# Altium footprint library PcbLib1.PcbLib: 17 footprints (part 2 of 3)
Each footprint in its own frame and in the unit in brackets; x right, y up, seen from the top. Pads: shape width x height; smd on the part's side, far side on the other; paste and mask are expansions set on the pad; w line width, h text height; cw(c..) or ccw(c..) is an arc to the next point about the centre after c.
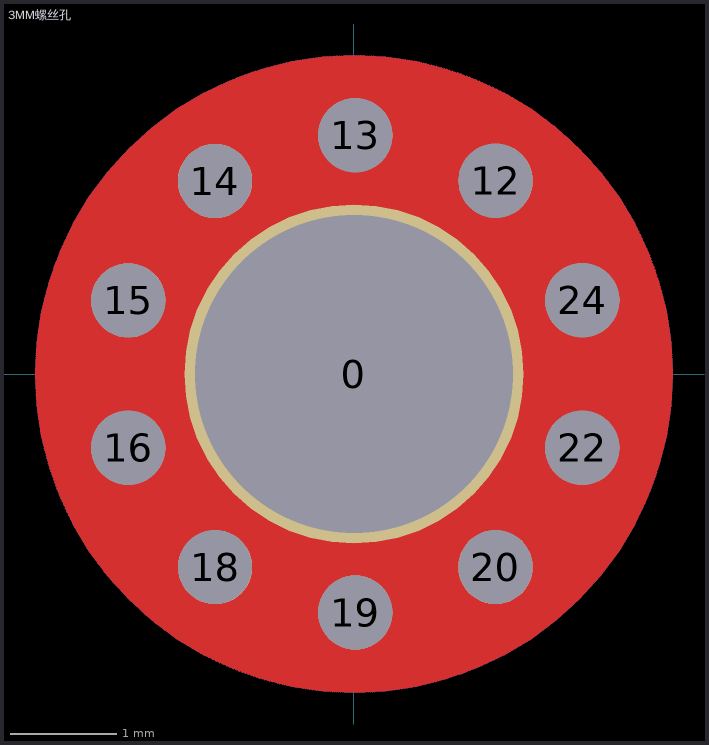
[diagram p1: the footprint, top view; thin cyan lines are the x and y axes]

## 3MM螺丝孔 [mm]
pads (11):
  round 3.2 hole 3: 0(0,0)
  round 0.7 hole 0.7: 12(1.335,1.821) 13(0.012,2.251) 14(-1.311,1.82) 15(-2.128,0.694) 16(-2.129,-0.694) 18(-1.31,-1.821) 19(0.012,-2.249) 20(1.334,-1.82) 22(2.152,-0.696) 24(2.152,0.695)
Top Layer:
  lines w0.013: -2.999,-0.065 -2.464,-0.6 ; -3,-0.047 -2.46,-0.587 ; -3,-0.029 -2.456,-0.573 ; -3,-0.012 -2.451,-0.561 ; -3,0.006 -2.445,-0.548 ; -3,0.024 -2.44,-0.537 ; -3,0.041 -2.433,-0.525 ; -2.999,0.059 -2.427,-0.514 ; -2.998,-0.102 -2.471,-0.629 ; -2.999,-0.083 -2.468,-0.614 ; -2.999,0.076 -2.42,-0.503 ; -2.999,0.093 -2.413,-0.493 ; -2.998,0.11 -2.405,-0.482 ; -2.997,-0.138 -2.476,-0.659 ; -2.998,-0.12 -2.474,-0.644 ; -2.997,0.127 -2.397,-0.473 ; -2.997,0.144 -2.389,-0.463 ; -2.996,-0.157 -2.477,-0.676 ; -2.996,0.161 -2.381,-0.454 ; -2.995,-0.176 -2.478,-0.693 ; -2.995,0.178 -2.372,-0.445 ; -2.994,-0.194 -2.477,-0.711 ; -2.994,0.194 -2.363,-0.436 ; -2.993,-0.213 -2.476,-0.73 ; -2.993,0.211 -2.354,-0.428 ; -2.992,0.228 -2.344,-0.42 ; -2.991,-0.232 -2.473,-0.75 ; -2.99,0.244 -2.334,-0.413 ; -2.99,-0.252 -2.469,-0.772 ; -2.988,-0.271 -2.463,-0.796 ; -2.989,0.26 -2.323,-0.405 ; -2.987,0.276 -2.313,-0.398 ; -2.986,-0.291 -2.454,-0.823 ; -2.986,0.293 -2.302,-0.392 ; -2.984,-0.31 -2.439,-0.855 ; -2.984,0.309 -2.29,-0.385 ; -2.983,0.325 -2.278,-0.379 ; -2.982,-0.33 -2.41,-0.902 ; -2.981,0.341 -2.266,-0.374 ; -2.98,-0.35 -1.636,-1.693 ; -2.979,0.356 -2.254,-0.369 ; -2.977,-0.37 -1.641,-1.706 ; -2.977,0.372 -2.241,-0.364 ; -2.975,0.388 -2.227,-0.36 ; -2.975,-0.39 -1.645,-1.72 ; -2.973,0.404 -2.214,-0.356 ; -2.972,-0.411 -1.649,-1.733 ; -2.971,0.419 -2.199,-0.353 ; -2.969,-0.431 -1.653,-1.748 ; -2.969,0.435 -2.184,-0.35 ; -2.966,-0.452 -1.655,-1.763 ; -2.966,0.45 -2.169,-0.348 ; -2.964,0.465 -2.153,-0.346 ; -2.963,-0.473 -1.658,-1.778 ; -2.962,0.481 -2.136,-0.345 ; -2.96,-0.494 -1.659,-1.794 ; -2.959,0.496 -2.118,-0.345 ; -2.957,0.511 -2.099,-0.347 ; -2.956,-0.515 -1.66,-1.811 ; -2.954,0.526 -2.079,-0.349 ; -2.952,-0.537 -1.66,-1.829 ; -2.951,0.541 -2.058,-0.352 ; -2.949,0.556 -2.035,-0.358 ; -2.948,-0.558 -1.659,-1.847 ; -2.946,0.571 -2.009,-0.366 ; -2.944,-0.58 -1.657,-1.867 ; -2.943,0.586 -1.979,-0.379 ; -2.939,-0.602 -1.654,-1.888 ; -2.94,0.6 -1.939,-0.4 ; -2.937,0.615 -0.274,-2.048 ; -2.935,-0.625 -1.648,-1.911 ; -2.934,0.629 -0.267,-2.038 ; -2.931,0.644 -0.259,-2.028 ; -2.93,-0.647 -1.64,-1.937 ; -2.928,0.659 -0.251,-2.018 ; -2.925,-0.67 -1.628,-1.967 ; -2.924,0.673 -0.242,-2.009 ; -2.921,0.687 -0.233,-2 ; -2.92,-0.693 -1.608,-2.005 ; -2.918,0.702 -0.224,-1.992 ; -2.914,0.716 -0.215,-1.983 ; -2.914,-0.716 -0.716,-2.914 ; -2.911,0.73 -0.205,-1.975 ; -2.908,-0.74 -0.74,-2.908 ; -2.907,0.744 -0.195,-1.968 ; -2.903,0.758 -0.185,-1.961 ; -2.902,-0.764 -0.764,-2.902 ; -2.9,0.772 -0.174,-1.954 ; -2.895,-0.788 -0.788,-2.895 ; -2.896,0.786 -1.165,-0.944 ; -2.892,0.8 -1.222,-0.87 ; -2.889,-0.812 -0.812,-2.889 ; -2.888,0.814 -1.259,-0.815 ; -2.884,0.828 -1.289,-0.768 ; -2.882,-0.837 -0.837,-2.882 ; -2.88,0.841 -1.313,-0.727 ; -2.876,0.855 -1.333,-0.688 ; -2.874,-0.862 -0.862,-2.874 ; -2.872,0.869 -1.351,-0.653 ; -2.868,0.882 -1.366,-0.62 ; -2.867,-0.887 -0.887,-2.866 ; -2.864,0.896 -1.38,-0.588 ; -2.86,0.909 -1.393,-0.558 ; -2.858,-0.913 -0.913,-2.858 ; -2.856,0.922 -1.404,-0.529 ; -2.851,0.936 -2.424,0.509 ; -2.85,-0.939 -0.939,-2.85 ; -2.847,0.949 -2.445,0.548 ; -2.842,0.962 -2.458,0.577 ; -2.841,-0.966 -0.966,-2.841 ; -2.838,0.975 -2.466,0.603 ; -2.833,0.989 -2.471,0.626 ; -2.832,-0.993 -0.993,-2.832 ; -2.829,1.002 -2.475,0.648 ; -2.824,1.015 -2.477,0.667 ; -2.822,-1.02 -1.02,-2.822 ; -2.819,1.028 -2.478,0.686 ; -2.815,1.041 -2.478,0.704 ; -2.812,-1.048 -1.048,-2.812 ; -2.81,1.053 -2.477,0.721 ; -2.805,1.066 -2.475,0.737 ; -2.801,-1.077 -1.077,-2.801 ; -2.8,1.079 -2.473,0.752 ; -2.795,1.092 -2.47,0.767 ; -2.79,-1.106 -1.106,-2.79 ; -2.79,1.104 -2.467,0.781 ; -2.785,1.117 -2.463,0.795 ; -2.78,1.13 -2.459,0.809 ; -2.778,-1.135 -1.135,-2.778 ; -2.775,1.142 -2.454,0.822 ; -2.77,1.155 -2.449,0.834 ; -2.765,-1.166 -1.166,-2.765 ; -2.764,1.167 -2.444,0.846 ; -2.759,1.18 -2.438,0.858 ; -2.754,1.192 -2.431,0.869 ; -2.752,-1.197 -1.197,-2.752 ; -2.748,1.204 -2.425,0.881 ; -2.743,1.217 -2.418,0.891 ; -2.738,-1.228 -1.228,-2.738 ; -2.738,1.229 -2.41,0.902 ; -2.732,1.241 -2.403,0.912 ; -2.727,1.253 -2.395,0.921 ; -2.723,-1.261 -1.261,-2.723 ; -2.721,1.265 -2.387,0.931 ; -2.715,1.277 -2.378,0.94 ; -2.71,1.289 -2.369,0.949 ; -2.707,-1.294 -1.294,-2.707 ; -2.704,1.301 -2.36,0.957 ; -2.698,1.313 -2.35,0.965 ; -2.692,1.325 -2.341,0.973 ; -2.69,-1.329 -1.329,-2.69 ; -2.686,1.337 -2.33,0.981 ; -2.681,1.348 -2.32,0.988 ; -2.675,1.36 -2.309,0.995 ; -2.672,-1.364 -1.364,-2.672 ; -2.669,1.372 -2.298,1.001 ; -2.663,1.384 -2.286,1.007 ; -2.657,1.395 -2.274,1.013 ; -2.653,-1.401 -1.401,-2.653 ; -2.65,1.407 -2.262,1.018 ; -2.644,1.418 -2.249,1.023 ; -2.638,1.43 -2.236,1.028 ; -2.633,-1.439 -1.44,-2.633 ; -2.632,1.441 -2.223,1.032 ; -2.625,1.453 -2.209,1.036 ; -2.619,1.464 -2.194,1.039 ; -2.613,1.475 -2.179,1.041 ; -2.61,-1.479 -1.479,-2.61 ; -2.606,1.486 -2.163,1.043 ; -2.6,1.498 -2.147,1.045 ; -2.593,1.509 -2.13,1.045 ; -2.587,1.52 -2.112,1.045 ; -2.586,-1.521 -1.521,-2.586 ; -2.58,1.531 -2.093,1.043 ; -2.574,1.542 -2.072,1.041 ; -2.567,1.553 -2.051,1.037 ; -2.56,1.564 -2.027,1.03 ; -2.559,-1.566 -1.566,-2.559 ; -2.554,1.575 -2,1.021 ; -2.547,1.586 -1.967,1.006 ; -2.54,1.597 -1.921,0.978 ; -2.533,1.608 -1.417,0.492 ; -2.53,-1.613 -1.613,-2.53 ; -2.526,1.618 -1.413,0.505 ; -2.519,1.629 -1.408,0.518 ; -2.512,1.64 -1.403,0.531 ; -2.505,1.651 -1.398,0.544 ; -2.498,1.661 -1.393,0.556 ; -2.497,-1.664 -1.664,-2.496 ; -2.491,1.672 -1.388,0.569 ; -2.484,1.682 -1.383,0.581 ; -2.477,1.693 -1.378,0.594 ; -2.47,1.703 -1.372,0.606 ; -2.463,1.714 -1.367,0.618 ; -2.458,-1.72 -1.72,-2.458 ; -2.455,1.724 -1.361,0.63 ; -2.448,1.735 -1.356,0.642 ; -2.441,1.745 -1.35,0.654 ; -2.433,1.755 -1.344,0.666 ; -2.426,1.765 -1.338,0.678 ; -2.418,1.776 -1.332,0.69 ; -2.413,-1.783 -1.783,-2.413 ; -2.411,1.786 -1.326,0.701 ; -2.403,1.796 -1.32,0.713 ; -2.396,1.806 -1.314,0.724 ; -2.388,1.816 -1.308,0.736 ; -2.38,1.826 -1.301,0.747 ; -2.373,1.836 -1.295,0.758 ; -2.365,1.846 -1.288,0.769 ; -2.357,1.856 -1.281,0.78 ; -2.355,-1.858 -1.859,-2.355 ; -2.349,1.866 -1.275,0.791 ; -2.341,1.876 -1.268,0.802 ; -2.334,-0.978 -1.631,-1.681 ; -2.334,1.885 -1.261,0.813 ; -2.326,1.895 -1.254,0.823 ; -2.318,1.905 -1.247,0.834 ; -2.314,0.399 -1.414,-0.501 ; -2.31,1.914 -1.24,0.845 ; -2.302,1.924 -1.233,0.855 ; -2.294,1.934 -1.225,0.865 ; -2.287,-1.007 -1.626,-1.669 ; -2.285,1.943 -1.218,0.876 ; -2.277,1.953 -1.21,0.886 ; -2.275,0.378 -1.423,-0.474 ; -2.271,-1.96 -1.96,-2.271 ; -2.269,1.962 -1.203,0.896 ; -2.261,1.972 -1.195,0.906 ; -2.255,-1.021 -1.62,-1.657 ; -2.253,1.981 -1.188,0.916 ; -2.245,0.365 -1.432,-0.448 ; -2.244,1.991 -1.18,0.926 ; -2.236,2 -1.172,0.936 ; -2.228,-1.031 -1.614,-1.645 ; -2.228,2.009 -1.164,0.946 ; -2.22,0.357 -1.44,-0.423 ; -2.219,2.019 -1.156,0.956 ; -2.211,2.028 -1.148,0.965 ; -2.204,-1.037 -1.607,-1.634 ; -2.202,2.037 -1.14,0.975 ; -2.197,0.352 -1.447,-0.398 ; -2.194,2.046 -1.132,0.984 ; -2.185,2.055 -1.124,0.994 ; -2.183,-1.041 -1.6,-1.624 ; -2.177,2.064 -1.115,1.003 ; -2.175,0.348 -1.453,-0.374 ; -2.168,2.073 -1.107,1.012 ; -2.162,-1.044 -1.593,-1.613 ; -2.159,2.082 -1.098,1.021 ; -2.156,0.346 -1.459,-0.351 ; -2.151,2.091 -1.09,1.031 ; -2.143,-1.045 -1.585,-1.603 ; -2.142,2.1 -1.081,1.04 ; -2.137,0.345 -1.464,-0.328 ; -2.133,2.109 -1.073,1.049 ; -2.125,-1.045 -1.577,-1.593 ; -2.124,2.118 -1.064,1.057 ; -2.119,0.345 -1.469,-0.305 ; -2.116,2.127 -1.055,1.066 ; -2.108,-1.045 -1.569,-1.584 ; -2.107,2.136 -1.611,1.64 ; -2.102,0.346 -1.473,-0.283 ; -2.098,2.144 -1.63,1.677 ; -2.092,-1.044 -1.56,-1.575 ; -2.089,2.153 -1.642,1.706 ; -2.086,0.348 -1.477,-0.261 ; -2.08,2.162 -1.649,1.731 ; -2.076,-1.042 -1.551,-1.566 ; -2.071,0.35 -1.481,-0.24 ; -2.071,2.171 -1.654,1.754 ; -2.061,-1.039 -1.542,-1.558 ; -2.062,2.179 -1.658,1.775 ; -2.056,0.353 -1.484,-0.219 ; -2.053,2.188 -1.66,1.795 ; -2.046,-1.036 -1.532,-1.55 ; -2.043,2.196 -1.661,1.813 ; -2.042,0.356 -1.487,-0.199 ; -2.034,2.205 -1.661,1.831 ; -2.032,-1.032 -1.523,-1.542 ; -2.028,0.36 -1.489,-0.178 ; -2.025,2.213 -1.66,1.848 ; -2.019,-1.028 -1.512,-1.534 ; -2.016,2.222 -1.658,1.864 ; -2.014,0.364 -1.492,-0.159 ; -2.007,2.23 -1.656,1.879 ; -2.006,-1.023 -1.502,-1.527 ; -2.001,0.369 -1.494,-0.139 ; -1.997,2.238 -1.653,1.894 ; -1.993,-1.018 -1.491,-1.52 ; -1.989,0.374 -1.495,-0.12 ; -1.988,2.247 -1.649,1.908 ; -1.981,-1.013 -1.48,-1.514 ; -1.978,2.255 -1.645,1.922 ; -1.977,0.379 -1.497,-0.101 ; -1.969,-1.007 -1.468,-1.508 ; -1.969,2.263 -1.641,1.935 ; -1.965,0.385 -1.498,-0.082 ; -1.96,2.271 -1.636,1.948 ; -1.957,-1.001 -1.456,-1.502 ; -1.954,0.392 -1.499,-0.063 ; -1.95,2.28 -1.631,1.961 ; -1.946,-0.994 -1.444,-1.497 ; -1.943,0.398 -1.499,-0.045 ; -1.94,2.288 -1.626,1.973 ; -1.935,-0.988 -1.431,-1.492 ; -1.932,0.405 -1.5,-0.027 ; -1.931,2.296 -1.62,1.985 ; -1.925,-0.98 -1.418,-1.487 ; -1.921,0.413 -1.5,-0.009 ; -1.921,2.304 -1.613,1.996 ; -1.915,-0.973 -1.405,-1.483 ; -1.911,0.42 -1.5,0.009 ; -1.912,2.312 -1.607,2.007 ; -1.905,-0.965 -1.391,-1.479 ; -1.902,2.32 -1.6,2.018 ; -1.902,0.428 -1.5,0.026 ; -1.895,-0.957 -1.376,-1.476 ; -1.892,0.436 -1.499,0.044 ; -1.892,2.328 -1.592,2.028 ; -1.886,-0.948 -1.361,-1.474 ; -1.883,0.445 -1.499,0.061 ; -1.882,2.336 -1.585,2.038 ; -1.877,-0.94 -1.345,-1.472 ; -1.874,0.454 -1.498,0.078 ; -1.873,2.344 -1.577,2.048 ; -1.869,-0.93 -1.329,-1.471 ; -1.866,0.463 -1.497,0.094 ; -1.863,2.352 -1.568,2.057 ; -1.861,-0.921 -1.311,-1.47 ; -1.858,0.473 -1.496,0.111 ; -1.853,-0.911 -1.293,-1.471 ; -1.853,2.359 -1.56,2.066 ; -1.85,0.483 -1.495,0.127 ; -1.845,-0.901 -1.274,-1.472 ; -1.845,0.902 -1.422,0.479 ; -1.842,0.493 -1.493,0.143 ; -1.843,2.367 -1.551,2.075 ; -1.838,-0.891 -1.254,-1.475 ; -1.835,0.503 -1.492,0.16 ; -1.833,-0.506 -0.281,-2.059 ; -1.833,2.375 -1.541,2.083 ; -1.831,-0.88 -1.232,-1.479 ; -1.828,0.514 -1.49,0.175 ; -1.824,-0.869 -1.207,-1.486 ; -1.822,0.525 -1.488,0.191 ; -1.823,2.382 -1.532,2.091 ; -1.818,-0.858 -1.18,-1.496 ; -1.816,0.537 -1.486,0.207 ; -1.816,0.856 -1.426,0.465 ; -1.813,2.39 -1.522,2.099 ; -1.812,-0.846 -1.147,-1.511 ; -1.811,-0.546 -0.288,-2.069 ; -1.81,0.549 -1.484,0.222 ; -1.807,-0.834 -1.098,-1.542 ; -1.805,0.561 -1.481,0.238 ; -1.803,2.398 -1.512,2.107 ; -1.802,0.823 -1.431,0.452 ; -1.801,-0.821 -0.336,-2.286 ; -1.8,0.574 -1.479,0.253 ; -1.799,-0.576 -0.294,-2.081 ; -1.797,-0.808 -0.338,-2.267 ; -1.795,0.587 -1.476,0.268 ; -1.793,2.405 -1.501,2.114 ; -1.792,-0.795 -0.338,-2.249 ; -1.793,0.796 -1.435,0.439 ; -1.791,-0.602 -0.301,-2.092 ; -1.791,0.6 -1.473,0.283 ; -1.789,-0.781 -0.338,-2.232 ; -1.787,0.614 -1.47,0.297 ; -1.786,0.772 -1.439,0.425 ; -1.785,-0.766 -0.336,-2.215 ; -1.785,-0.625 -0.306,-2.104 ; -1.784,0.629 -1.467,0.312 ; -1.783,-0.752 -0.335,-2.2 ; -1.783,2.413 -1.49,2.121 ; -1.781,-0.647 -0.312,-2.116 ; -1.782,0.644 -1.464,0.327 ; -1.782,0.751 -1.443,0.411 ; -1.78,-0.736 -0.332,-2.185 ; -1.779,-0.72 -0.329,-2.17 ; -1.779,-0.667 -0.317,-2.129 ; -1.78,0.66 -1.461,0.341 ; -1.779,0.73 -1.447,0.397 ; -1.778,-0.703 -0.325,-2.156 ; -1.778,-0.685 -0.321,-2.142 ; -1.778,0.676 -1.458,0.355 ; -1.778,0.693 -1.454,0.37 ; -1.778,0.711 -1.45,0.384 ; -1.773,2.42 -1.479,2.127 ; -1.762,2.428 -1.468,2.133 ; -1.752,2.435 -1.456,2.139 ; -1.742,2.443 -1.443,2.144 ; -1.731,2.45 -1.43,2.149 ; -1.721,2.457 -1.417,2.153 ; -1.711,2.465 -1.404,2.158 ; -1.7,2.472 -1.39,2.161 ; -1.69,2.479 -1.375,2.164 ; -1.679,2.486 -1.36,2.167 ; -1.669,2.493 -1.344,2.169 ; -1.658,2.5 -1.327,2.17 ; -1.647,2.507 -1.31,2.17 ; -1.637,2.514 -1.292,2.17 ; -1.626,2.521 -1.273,2.168 ; -1.615,2.528 -1.252,2.165 ; -1.604,2.535 -1.23,2.161 ; -1.594,2.542 -1.206,2.154 ; -1.583,2.549 -1.178,2.144 ; -1.572,2.556 -1.145,2.128 ; -1.561,2.562 -1.093,2.095 ; -1.55,2.569 -0.421,1.44 ; -1.539,2.576 -0.407,1.444 ; -1.528,2.582 -0.393,1.448 ; -1.517,2.589 -0.379,1.452 ; -1.505,2.595 -0.365,1.455 ; -1.495,-2.118 -0.693,-2.919 ; -1.494,2.602 -0.351,1.459 ; -1.492,1.521 -1.046,1.075 ; -1.483,2.608 -0.337,1.462 ; -1.472,2.615 -0.322,1.465 ; -1.46,2.621 -0.308,1.468 ; -1.457,-2.138 -0.67,-2.925 ; -1.454,1.501 -1.037,1.084 ; -1.449,2.627 -0.293,1.471 ; -1.438,2.633 -0.278,1.474 ; -1.427,-2.15 -0.647,-2.93 ; -1.426,2.64 -0.263,1.477 ; -1.425,1.489 -1.028,1.092 ; -1.415,2.646 -0.248,1.479 ; -1.403,2.652 -0.233,1.482 ; -1.401,-2.158 -0.625,-2.935 ; -1.4,1.482 -1.019,1.101 ; -1.392,2.658 -0.218,1.484 ; -1.38,2.664 -0.202,1.486 ; -1.378,-2.164 -0.602,-2.939 ; -1.377,1.476 -1.01,1.109 ; -1.368,2.67 -0.187,1.488 ; -1.357,-2.167 -0.58,-2.944 ; -1.357,2.676 -0.171,1.49 ; -1.356,1.473 -1,1.118 ; -1.345,2.682 -0.155,1.492 ; -1.337,-2.169 -0.558,-2.948 ; -1.336,1.471 -0.991,1.126 ; -1.333,2.688 -0.139,1.494 ; -1.321,2.694 -0.122,1.495 ; -1.319,-2.17 -0.537,-2.952 ; -1.317,1.47 -0.981,1.134 ; -1.309,2.7 -0.106,1.496 ; -1.301,-2.17 -0.515,-2.956 ; -1.3,1.47 -0.972,1.142 ; -1.297,2.705 -0.089,1.497 ; -1.286,2.711 -0.073,1.498 ; -1.284,-2.169 -0.494,-2.959 ; -1.283,1.471 -0.962,1.151 ; -1.274,2.717 -0.056,1.499 ; -1.268,-2.168 -0.473,-2.963 ; -1.267,1.473 -0.953,1.159 ; -1.261,2.722 -0.038,1.499 ; -1.253,-2.166 -0.452,-2.966 ; -1.252,1.475 -0.943,1.167 ; -1.249,2.728 -0.021,1.5 ; -1.238,-2.163 -0.431,-2.969 ; -1.237,1.478 -0.933,1.174 ; -1.237,2.734 -0.004,1.5 ; -1.225,2.739 0.014,1.5 ; -1.223,-2.159 -0.411,-2.972 ; -1.223,1.481 -0.923,1.182 ; -1.213,2.745 0.032,1.5 ; -1.21,-2.155 -0.39,-2.975 ; -1.209,1.485 -0.913,1.19 ; -1.201,2.75 0.05,1.499 ; -1.196,-2.151 -0.37,-2.977 ; -1.195,1.49 -0.903,1.198 ; -1.188,2.755 0.069,1.498 ; -1.183,-2.146 -0.35,-2.98 ; -1.182,1.494 -0.893,1.205 ; -1.176,2.761 0.087,1.497 ; -1.171,-2.141 -0.33,-2.982 ; -1.17,1.5 -0.883,1.213 ; -1.163,2.766 0.106,1.496 ; -1.159,-2.136 -0.31,-2.984 ; -1.158,1.505 -0.873,1.22 ; -1.151,2.771 0.125,1.495 ; -1.147,-2.13 -0.291,-2.986 ; -1.146,1.511 -0.862,1.227 ; -1.138,2.776 0.145,1.493 ; -1.136,-2.123 -0.271,-2.988 ; -1.135,1.517 -0.852,1.235 ; -1.126,2.781 0.164,1.491 ; -1.124,-2.117 -0.252,-2.99 ; -1.124,1.524 -0.842,1.242 ; -1.114,-2.11 -0.233,-2.991 ; -1.113,2.786 0.184,1.489 ; -1.113,1.531 -0.831,1.249 ; -1.103,-2.103 -0.213,-2.992 ; -1.103,1.538 -0.82,1.256 ; -1.101,2.791 0.205,1.486 ; -1.093,-2.095 -0.195,-2.994 ; -1.093,1.546 -0.81,1.263 ; -1.088,2.796 0.225,1.483 ; -1.084,-2.087 -0.176,-2.995 ; -1.083,1.554 -0.799,1.27 ; -1.075,2.801 0.246,1.48 ; -1.074,-2.079 -0.157,-2.996 ; -1.074,1.562 -0.788,1.277 ; -1.065,-2.07 -0.138,-2.997 ; -1.065,1.571 -0.777,1.283 ; -1.062,2.806 0.268,1.476 ; -1.056,-2.061 -0.12,-2.998 ; -1.056,1.58 -0.766,1.29 ; -1.05,2.811 0.289,1.472 ; -1.048,-2.052 -0.102,-2.998 ; -1.047,1.589 -0.755,1.296 ; -1.04,-2.042 -0.083,-2.999 ; -1.039,1.599 -0.744,1.303 ; -1.037,2.816 -0.284,2.063 ; -1.035,2.036 -0.435,1.436 ; -1.033,-1.607 -0.333,-2.307 ; -1.032,-2.032 -0.065,-2.999 ; -1.032,1.609 -0.732,1.309 ; -1.025,-2.022 -0.047,-3 ; -1.024,1.619 -0.721,1.316 ; -1.024,2.821 -0.305,2.102 ; -1.017,-2.012 -0.029,-3 ; -1.017,1.629 -0.709,1.322 ; -1.011,-2.001 -0.012,-3 ; -1.011,2.825 -0.317,2.132 ; -1.01,1.64 -0.698,1.328 ; -1.004,-1.99 0.006,-3 ; -1.004,1.651 -0.686,1.334 ; -1.002,-1.656 -0.329,-2.329 ; -1.002,1.985 -0.448,1.432 ; -0.998,-1.978 0.024,-3 ; -0.998,2.83 -0.326,2.158 ; -0.998,1.663 -0.675,1.34 ; -0.992,-1.966 0.041,-3 ; -0.992,1.675 -0.663,1.346 ; -0.987,-1.954 0.059,-2.999 ; -0.986,1.687 -0.651,1.352 ; -0.986,-1.69 -0.322,-2.353 ; -0.986,1.952 -0.462,1.428 ; -0.985,2.834 -0.331,2.181 ; -0.982,-1.941 0.076,-2.999 ; -0.982,1.7 -0.639,1.357 ; -0.978,-1.928 0.093,-2.999 ; -0.976,-1.717 -0.313,-2.381 ; -0.977,1.713 -0.627,1.363 ; -0.976,1.925 -0.475,1.423 ; -0.973,-1.914 0.11,-2.998 ; -0.973,1.727 -0.615,1.369 ; -0.971,2.839 -0.335,2.202 ; -0.97,-1.9 0.127,-2.997 ; -0.97,-1.741 -0.297,-2.414 ; -0.969,1.741 -0.602,1.374 ; -0.97,1.9 -0.488,1.419 ; -0.967,-1.886 0.144,-2.997 ; -0.966,1.755 -0.59,1.379 ; -0.965,-1.763 -0.265,-2.463 ; -0.965,1.878 -0.501,1.414 ; -0.964,-1.87 0.161,-2.996 ; -0.964,1.771 -0.578,1.385 ; -0.962,-1.855 0.178,-2.995 ; -0.963,-1.784 0.244,-2.99 ; -0.962,1.858 -0.514,1.409 ; -0.961,-1.838 0.194,-2.994 ; -0.961,-1.803 0.227,-2.991 ; -0.962,1.786 -0.565,1.39 ; -0.961,-1.821 0.211,-2.993 ; -0.961,1.803 -0.553,1.395 ; -0.96,1.82 -0.54,1.4 ; -0.961,1.838 -0.527,1.405 ; -0.958,2.843 -0.337,2.222 ; -0.944,-1.166 -0.163,-1.947 ; -0.945,2.848 -0.338,2.241 ; -0.932,2.852 -0.338,2.259 ; -0.918,2.857 -0.337,2.275 ; -0.905,2.861 -0.336,2.292 ; -0.891,2.865 -0.333,2.307 ; -0.878,2.869 -0.331,2.322 ; -0.87,-1.222 -0.152,-1.941 ; -0.864,2.873 -0.327,2.336 ; -0.851,2.877 -0.323,2.35 ; -0.837,2.881 -0.319,2.363 ; -0.823,2.885 -0.314,2.376 ; -0.815,-1.26 -0.14,-1.935 ; -0.81,2.889 -0.309,2.389 ; -0.796,2.893 -0.304,2.401 ; -0.782,2.897 -0.298,2.413 ; -0.768,-1.289 -0.128,-1.929 ; -0.768,2.901 -0.292,2.424 ; -0.754,2.904 -0.285,2.435 ; -0.74,2.908 -0.278,2.446 ; -0.726,-1.313 -0.115,-1.924 ; -0.726,2.911 -0.271,2.456 ; -0.711,2.915 -0.263,2.466 ; -0.697,2.918 -0.255,2.476 ; -0.688,-1.333 -0.102,-1.919 ; -0.683,2.922 -0.247,2.486 ; -0.669,2.925 -0.238,2.495 ; -0.654,2.928 -0.229,2.503 ; -0.653,-1.351 -0.089,-1.915 ; -0.64,2.931 -0.22,2.512 ; -0.625,2.935 -0.211,2.52 ; -0.62,-1.366 -0.075,-1.911 ; -0.61,2.938 -0.201,2.528 ; -0.596,2.941 -0.191,2.535 ; -0.588,-1.38 -0.061,-1.908 ; -0.581,2.944 -0.18,2.543 ; -0.566,2.946 -0.169,2.549 ; -0.558,-1.393 -0.046,-1.905 ; -0.551,2.949 -0.158,2.556 ; -0.536,2.952 -0.146,2.562 ; -0.529,-1.404 -0.031,-1.903 ; -0.521,2.955 -0.134,2.568 ; -0.506,2.957 -0.122,2.573 ; -0.501,-1.414 -0.014,-1.901 ; -0.491,2.96 -0.109,2.578 ; -0.476,2.962 -0.096,2.583 ; -0.474,-1.424 0.002,-1.9 ; -0.461,2.965 -0.083,2.587 ; -0.448,-1.432 0.02,-1.9 ; -0.445,2.967 -0.069,2.59 ; -0.43,2.969 -0.054,2.593 ; -0.423,-1.44 0.039,-1.901 ; -0.414,2.971 -0.039,2.596 ; -0.399,2.973 -0.023,2.598 ; -0.398,-1.447 0.058,-1.903 ; -0.383,2.976 -0.007,2.599 ; -0.374,-1.453 0.08,-1.907 ; -0.367,2.977 0.01,2.6 ; -0.352,2.979 0.028,2.599 ; -0.35,-1.459 0.103,-1.912 ; -0.336,2.981 0.047,2.598 ; -0.327,-1.464 0.128,-1.92 ; -0.32,2.983 0.068,2.595 ; -0.305,-1.469 0.158,-1.932 ; -0.304,2.985 0.09,2.591 ; -0.288,2.986 0.114,2.585 ; -0.283,-1.473 0.196,-1.952 ; -0.272,2.988 0.141,2.575 ; -0.261,-1.477 1.066,-2.805 ; -0.255,2.989 0.174,2.56 ; -0.24,-1.481 1.079,-2.8 ; -0.239,2.99 0.221,2.531 ; -0.223,2.992 0.987,1.782 ; -0.219,-1.484 1.092,-2.795 ; -0.206,2.993 0.985,1.802 ; -0.201,-2.527 0.26,-2.989 ; -0.199,-1.487 1.104,-2.79 ; -0.189,2.994 0.985,1.82 ; -0.178,-1.49 1.117,-2.785 ; -0.175,1.954 0.312,1.468 ; -0.173,2.995 0.985,1.837 ; -0.158,-1.492 1.13,-2.78 ; -0.156,2.996 0.986,1.854 ; -0.152,-2.559 0.276,-2.987 ; -0.139,2.997 0.988,1.869 ; -0.139,-1.494 1.142,-2.775 ; -0.136,1.933 0.334,1.463 ; -0.122,2.997 0.991,1.885 ; -0.119,-2.574 0.293,-2.986 ; -0.12,-1.495 1.155,-2.77 ; -0.106,1.921 0.357,1.457 ; -0.105,2.998 0.994,1.899 ; -0.1,-1.497 1.167,-2.764 ; -0.091,-2.584 0.309,-2.984 ; -0.088,2.999 0.997,1.913 ; -0.082,-1.498 1.18,-2.759 ; -0.08,1.912 0.381,1.451 ; -0.071,2.999 1.001,1.927 ; -0.067,-2.591 0.325,-2.983 ; -0.063,-1.499 1.192,-2.754 ; -0.057,1.907 0.405,1.445 ; -0.053,2.999 1.006,1.94 ; -0.045,-2.595 0.341,-2.981 ; -0.045,-1.499 1.204,-2.748 ; -0.036,1.903 0.43,1.437 ; -0.036,3 1.011,1.953 ; -0.027,-1.5 1.217,-2.743 ; -0.024,-2.598 0.356,-2.979 ; -0.018,3 1.016,1.965 ; -0.016,1.901 0.456,1.429 ; -0.009,-1.5 1.229,-2.738 ; -0.005,-2.6 0.372,-2.977 ; -0.001,3 1.022,1.977 ; 0.003,1.9 0.482,1.421 ; 0.009,-1.5 1.241,-2.732 ; 0.013,-2.6 0.388,-2.975 ; 0.017,3 1.028,1.989 ; 0.021,1.9 0.509,1.411 ; 0.026,-1.5 1.253,-2.727 ; 0.03,-2.6 0.404,-2.973 ; 0.035,3 1.034,2 ; 0.037,1.901 0.538,1.401 ; 0.044,-1.499 1.265,-2.721 ; 0.046,-2.598 0.419,-2.971 ; 0.053,2.999 1.041,2.011 ; 0.054,1.902 0.567,1.389 ; 0.061,-1.499 1.277,-2.715 ; 0.062,-2.596 0.435,-2.969 ; 0.069,1.905 0.597,1.376 ; 0.071,2.999 1.048,2.021 ; 0.077,-2.594 0.45,-2.966 ; 0.078,-1.498 1.289,-2.71 ; 0.084,1.907 0.629,1.362 ; 0.089,2.998 1.056,2.032 ; 0.092,-2.591 0.465,-2.964 ; 0.094,-1.497 1.301,-2.704 ; 0.098,1.911 0.663,1.346 ; 0.106,-2.587 0.481,-2.962 ; 0.107,2.998 1.063,2.042 ; 0.111,-1.496 1.313,-2.698 ; 0.112,1.915 0.699,1.327 ; 0.12,-2.583 0.496,-2.959 ; 0.126,1.919 0.739,1.306 ; 0.125,2.997 1.071,2.051 ; 0.127,-1.495 1.325,-2.692 ; 0.133,-2.579 0.511,-2.957 ; 0.138,1.924 0.782,1.281 ; 0.144,-1.493 1.337,-2.686 ; 0.144,2.996 1.08,2.06 ; 0.145,-2.574 0.526,-2.954 ; 0.151,1.929 0.83,1.249 ; 0.158,-2.568 0.541,-2.951 ; 0.16,-1.492 1.348,-2.681 ; 0.163,1.934 0.89,1.208 ; 0.163,2.995 1.089,2.069 ; 0.17,-2.562 0.556,-2.949 ; 0.176,-1.49 1.36,-2.675 ; 0.175,1.94 0.976,1.139 ; 0.181,-2.556 0.571,-2.946 ; 0.181,2.994 1.098,2.078 ; 0.186,1.946 2.901,-0.768 ; 0.191,-1.488 1.372,-2.669 ; 0.193,-2.55 0.585,-2.943 ; 0.197,1.953 2.904,-0.754 ; 0.2,2.993 1.107,2.086 ; 0.203,-2.543 0.6,-2.94 ; 0.207,-1.486 1.384,-2.663 ; 0.208,1.96 2.908,-0.74 ; 0.214,-2.536 0.615,-2.937 ; 0.219,1.967 2.912,-0.726 ; 0.219,2.992 1.117,2.094 ; 0.222,-1.484 1.395,-2.657 ; 0.224,-2.528 0.629,-2.934 ; 0.229,1.975 2.915,-0.712 ; 0.234,-2.521 0.644,-2.931 ; 0.238,-1.481 1.407,-2.65 ; 0.238,1.983 2.919,-0.697 ; 0.238,2.99 1.127,2.102 ; 0.244,-2.513 0.658,-2.927 ; 0.248,1.991 2.922,-0.683 ; 0.253,-2.504 0.673,-2.924 ; 0.253,-1.479 1.418,-2.644 ; 0.257,2 2.925,-0.669 ; 0.258,2.989 1.137,2.109 ; 0.262,-2.495 0.687,-2.921 ; 0.266,2.008 2.928,-0.654 ; 0.268,-1.476 1.43,-2.638 ; 0.27,-2.486 0.702,-2.917 ; 0.274,2.018 2.932,-0.64 ; 0.277,2.987 1.148,2.116 ; 0.279,-2.477 0.716,-2.914 ; 0.282,2.027 2.935,-0.625 ; 0.283,-1.473 1.441,-2.632 ; 0.287,-2.467 0.73,-2.911 ; 0.29,2.037 2.938,-0.611 ; 0.293,2.459 0.989,1.762 ; 0.294,-2.457 0.744,-2.907 ; 0.296,2.985 1.159,2.123 ; 0.298,-1.471 1.453,-2.626 ; 0.298,2.047 2.941,-0.596 ; 0.302,-2.447 0.758,-2.903 ; 0.305,2.058 1.859,0.503 ; 0.309,-2.436 0.772,-2.9 ; 0.309,-2.066 1.053,-2.81 ; 0.312,2.069 1.836,0.544 ; 0.312,-1.468 1.464,-2.619 ; 0.315,-2.425 0.786,-2.896 ; 0.316,2.983 1.17,2.129 ; 0.318,2.08 1.823,0.575 ; 0.321,-2.414 0.8,-2.892 ; 0.322,2.411 0.994,1.74 ; 0.324,2.091 1.815,0.601 ; 0.327,-1.464 1.475,-2.613 ; 0.327,-2.402 0.814,-2.888 ; 0.33,-2.104 1.041,-2.815 ; 0.33,2.103 1.809,0.624 ; 0.333,-2.39 0.827,-2.884 ; 0.336,2.981 1.182,2.135 ; 0.338,-2.377 0.841,-2.88 ; 0.337,2.379 1.001,1.715 ; 0.34,2.128 1.803,0.665 ; 0.342,-2.134 1.028,-2.819 ; 0.341,-1.461 1.486,-2.606 ; 0.343,-2.364 0.855,-2.876 ; 0.345,2.141 1.802,0.684 ; 0.347,-2.351 0.868,-2.872 ; 0.347,2.352 1.011,1.688 ; 0.349,2.155 1.802,0.702 ; 0.351,-2.337 0.882,-2.868 ; 0.35,-2.159 1.015,-2.824 ; 0.353,2.169 1.803,0.719 ; 0.353,2.328 1.027,1.654 ; 0.354,-2.323 0.896,-2.864 ; 0.355,-2.182 1.002,-2.829 ; 0.355,-1.458 1.498,-2.6 ; 0.356,2.184 1.804,0.735 ; 0.356,2.979 1.194,2.141 ; 0.357,-2.308 0.909,-2.86 ; 0.358,2.199 1.806,0.751 ; 0.358,2.306 1.061,1.603 ; 0.36,-2.293 0.922,-2.855 ; 0.359,-2.204 0.989,-2.833 ; 0.361,-2.277 0.936,-2.851 ; 0.361,-2.223 0.975,-2.838 ; 0.36,2.214 1.809,0.766 ; 0.36,2.285 1.825,0.82 ; 0.362,-2.26 0.949,-2.847 ; 0.362,-2.242 0.962,-2.842 ; 0.362,2.231 1.812,0.78 ; 0.362,2.248 1.816,0.794 ; 0.362,2.266 1.82,0.807 ; 0.37,-1.454 1.509,-2.593 ; 0.376,2.976 1.206,2.146 ; 0.384,-1.451 1.52,-2.587 ; 0.396,2.974 1.219,2.151 ; 0.398,-1.447 1.531,-2.58 ; 0.411,-1.443 1.542,-2.574 ; 0.417,2.971 1.233,2.155 ; 0.425,-1.439 1.553,-2.567 ; 0.437,2.968 1.247,2.159 ; 0.439,-1.435 1.564,-2.56 ; 0.452,-1.431 1.063,-2.042 ; 0.458,2.965 1.261,2.162 ; 0.466,-1.426 1.027,-1.988 ; 0.479,-1.422 1.011,-1.954 ; 0.479,2.962 1.276,2.165 ; 0.492,-1.418 1.001,-1.926 ; 0.5,2.958 1.291,2.168 ; 0.505,-1.413 0.994,-1.902 ; 0.518,-1.408 0.989,-1.879 ; 0.522,2.955 1.307,2.169 ; 0.531,-1.403 0.986,-1.859 ; 0.544,-1.398 0.985,-1.84 ; 0.543,2.951 1.324,2.17 ; 0.556,-1.393 0.984,-1.821 ; 0.565,2.947 1.341,2.17 ; 0.569,-1.388 0.985,-1.804 ; 0.581,-1.383 0.986,-1.788 ; 0.587,2.942 1.36,2.169 ; 0.594,-1.378 0.988,-1.772 ; 0.606,-1.373 0.99,-1.757 ; 0.609,2.938 1.38,2.167 ; 0.618,-1.367 0.993,-1.742 ; 0.63,-1.362 0.997,-1.728 ; 0.631,2.933 1.401,2.164 ; 0.643,-1.356 1.001,-1.714 ; 0.654,-1.35 1.005,-1.701 ; 0.654,2.928 1.424,2.158 ; 0.666,-1.344 1.01,-1.688 ; 0.677,2.923 1.449,2.151 ; 0.678,-1.338 1.016,-1.676 ; 0.69,-1.332 1.021,-1.664 ; 0.7,2.918 1.479,2.139 ; 0.701,-1.326 1.027,-1.652 ; 0.713,-1.32 1.034,-1.641 ; 0.724,-1.314 1.041,-1.63 ; 0.723,2.912 1.516,2.119 ; 0.736,-1.308 1.048,-1.62 ; 0.747,-1.301 1.055,-1.609 ; 0.747,2.906 2.906,0.747 ; 0.758,-1.295 1.063,-1.599 ; 0.769,-1.288 1.071,-1.59 ; 0.771,2.9 2.9,0.771 ; 0.78,-1.281 1.079,-1.581 ; 0.791,-1.275 1.088,-1.572 ; 0.795,2.893 2.894,0.795 ; 0.802,-1.268 1.097,-1.563 ; 0.813,-1.261 1.106,-1.555 ; 0.82,2.886 2.887,0.819 ; 0.823,-1.254 1.116,-1.547 ; 0.834,-1.247 1.126,-1.539 ; 0.845,-1.24 1.136,-1.532 ; 0.844,2.879 2.88,0.844 ; 0.855,-1.233 1.147,-1.525 ; 0.866,-1.225 1.158,-1.518 ; 0.87,2.872 2.872,0.869 ; 0.876,-1.218 1.169,-1.512 ; 0.886,-1.211 1.181,-1.506 ; 0.895,2.864 2.864,0.895 ; 0.896,-1.203 1.193,-1.5 ; 0.906,-1.195 1.206,-1.495 ; 0.916,-1.188 1.219,-1.49 ; 0.921,2.856 2.856,0.921 ; 0.926,-1.18 1.232,-1.486 ; 0.936,-1.172 1.246,-1.482 ; 0.946,-1.164 1.26,-1.478 ; 0.947,2.847 2.848,0.947 ; 0.956,-1.156 1.275,-1.475 ; 0.965,-1.148 1.29,-1.473 ; 0.974,2.838 2.839,0.974 ; 0.975,-1.14 1.306,-1.471 ; 0.984,-1.132 1.323,-1.47 ; 0.994,-1.124 1.34,-1.47 ; 1.001,2.829 2.829,1.001 ; 1.003,-1.115 1.359,-1.471 ; 1.012,-1.107 1.378,-1.473 ; 1.022,-1.098 1.399,-1.476 ; 1.029,2.819 2.819,1.028 ; 1.031,-1.09 1.422,-1.481 ; 1.04,-1.081 1.447,-1.489 ; 1.049,-1.073 1.477,-1.5 ; 1.057,2.808 2.809,1.056 ; 1.058,-1.064 1.513,-1.519 ; 1.066,-1.055 2.127,-2.116 ; 1.075,-1.046 2.136,-2.107 ; 1.084,-1.037 2.145,-2.098 ; 1.085,2.797 2.798,1.085 ; 1.092,-1.028 2.153,-2.089 ; 1.101,-1.019 2.162,-2.08 ; 1.109,-1.01 2.171,-2.071 ; 1.112,-2.091 1.575,-2.554 ; 1.115,2.786 2.786,1.114 ; 1.118,-1 2.179,-2.062 ; 1.117,1.546 1.83,0.833 ; 1.126,-0.991 2.188,-2.053 ; 1.134,-0.982 2.196,-2.044 ; 1.139,0.976 2.897,-0.782 ; 1.143,-0.972 2.205,-2.034 ; 1.144,2.774 2.774,1.144 ; 1.151,-0.962 2.213,-2.025 ; 1.159,-0.953 2.222,-2.016 ; 1.166,-2.127 1.586,-2.547 ; 1.167,-0.943 2.23,-2.007 ; 1.169,1.512 1.836,0.845 ; 1.174,-0.933 2.239,-1.997 ; 1.175,2.761 2.761,1.174 ; 1.182,-0.923 2.247,-1.988 ; 1.19,-0.913 2.255,-1.979 ; 1.198,-0.903 2.263,-1.969 ; 1.2,-2.144 1.597,-2.54 ; 1.202,1.496 1.842,0.857 ; 1.205,-0.893 2.272,-1.96 ; 1.206,2.748 2.748,1.206 ; 1.208,0.89 2.893,-0.796 ; 1.213,-0.883 2.28,-1.95 ; 1.22,-0.873 2.288,-1.941 ; 1.227,-0.862 2.296,-1.931 ; 1.228,-2.154 1.608,-2.533 ; 1.23,1.486 1.848,0.868 ; 1.235,-0.852 2.304,-1.921 ; 1.238,2.733 2.734,1.238 ; 1.242,-0.842 2.312,-1.912 ; 1.249,-0.831 2.32,-1.902 ; 1.249,0.83 2.889,-0.81 ; 1.253,-2.161 1.619,-2.526 ; 1.254,1.48 1.854,0.879 ; 1.256,-0.82 2.328,-1.892 ; 1.263,-0.81 2.336,-1.883 ; 1.27,-0.799 2.344,-1.873 ; 1.271,2.718 2.719,1.27 ; 1.275,-2.165 1.629,-2.519 ; 1.277,-0.788 2.352,-1.863 ; 1.276,1.475 1.861,0.89 ; 1.281,0.781 2.886,-0.824 ; 1.283,-0.777 2.359,-1.853 ; 1.29,-0.766 2.367,-1.843 ; 1.296,-2.168 1.64,-2.512 ; 1.297,-0.755 2.375,-1.833 ; 1.297,1.472 1.869,0.901 ; 1.303,-0.744 2.383,-1.823 ; 1.304,2.702 2.703,1.304 ; 1.306,0.738 2.882,-0.837 ; 1.309,-0.732 2.39,-1.813 ; 1.315,-2.17 1.651,-2.505 ; 1.316,-0.721 2.398,-1.803 ; 1.316,1.471 1.876,0.911 ; 1.322,-0.71 2.405,-1.793 ; 1.327,0.699 2.878,-0.851 ; 1.328,-0.698 2.413,-1.783 ; 1.333,-2.17 1.661,-2.498 ; 1.334,-0.686 2.42,-1.773 ; 1.334,1.47 1.884,0.92 ; 1.339,2.685 2.685,1.339 ; 1.34,-0.675 2.428,-1.762 ; 1.346,-0.663 2.435,-1.752 ; 1.346,0.663 2.874,-0.865 ; 1.35,-2.17 1.672,-2.491 ; 1.352,-0.651 2.443,-1.742 ; 1.352,1.471 1.892,0.93 ; 1.358,-0.639 2.45,-1.732 ; 1.362,0.629 2.869,-0.878 ; 1.363,-0.627 2.457,-1.721 ; 1.367,-2.169 1.682,-2.484 ; 1.368,1.472 1.901,0.939 ; 1.369,-0.615 2.465,-1.711 ; 1.374,-0.603 2.472,-1.7 ; 1.375,2.667 2.667,1.375 ; 1.376,0.597 2.865,-0.892 ; 1.379,-0.59 2.479,-1.69 ; 1.383,-2.167 1.693,-2.477 ; 1.385,-0.578 2.486,-1.679 ; 1.384,1.474 1.91,0.948 ; 1.39,-0.565 2.493,-1.669 ; 1.389,0.567 2.861,-0.905 ; 1.395,-0.553 2.5,-1.658 ; 1.398,-2.164 1.703,-2.47 ; 1.4,-0.54 2.508,-1.648 ; 1.399,1.476 1.919,0.956 ; 1.401,0.537 2.335,-0.397 ; 1.405,-0.527 2.515,-1.637 ; 1.41,-0.514 2.521,-1.626 ; 1.411,0.509 2.297,-0.377 ; 1.413,-2.161 1.714,-2.463 ; 1.412,2.647 2.648,1.412 ; 1.414,1.479 1.928,0.964 ; 1.414,-0.501 2.528,-1.615 ; 1.419,-0.488 2.535,-1.605 ; 1.421,0.482 2.268,-0.365 ; 1.423,-0.475 2.542,-1.594 ; 1.427,-2.158 1.724,-2.455 ; 1.428,-0.462 1.872,-0.906 ; 1.428,1.483 1.938,0.972 ; 1.429,0.456 2.242,-0.357 ; 1.432,-0.448 1.842,-0.858 ; 1.436,-0.435 1.827,-0.825 ; 1.437,0.43 2.219,-0.352 ; 1.44,-2.154 1.735,-2.448 ; 1.44,-0.421 1.817,-0.798 ; 1.441,1.487 1.948,0.98 ; 1.444,-0.407 1.811,-0.774 ; 1.445,0.405 2.198,-0.348 ; 1.448,-0.393 1.806,-0.752 ; 1.452,-0.38 1.804,-0.732 ; 1.451,0.381 2.179,-0.346 ; 1.451,2.626 2.627,1.451 ; 1.454,-2.149 1.745,-2.441 ; 1.455,1.491 1.959,0.987 ; 1.455,-0.365 1.802,-0.712 ; 1.457,0.357 2.16,-0.345 ; 1.459,-0.351 1.802,-0.694 ; 1.462,-0.337 1.802,-0.677 ; 1.463,0.334 2.142,-0.345 ; 1.465,-0.322 1.803,-0.661 ; 1.466,-2.144 1.755,-2.433 ; 1.467,1.496 1.97,0.994 ; 1.468,-0.308 1.805,-0.645 ; 1.468,0.312 2.126,-0.346 ; 1.471,-0.293 1.808,-0.63 ; 1.472,0.289 2.109,-0.348 ; 1.474,-0.278 1.811,-0.615 ; 1.476,0.268 2.094,-0.35 ; 1.477,-0.263 1.815,-0.601 ; 1.479,-2.139 1.765,-2.426 ; 1.48,-0.248 1.819,-0.588 ; 1.48,0.246 2.079,-0.353 ; 1.48,1.502 1.981,1 ; 1.482,-0.233 1.823,-0.574 ; 1.483,0.225 2.065,-0.356 ; 1.484,-0.218 1.828,-0.562 ; 1.486,-0.202 1.834,-0.549 ; 1.486,0.205 2.051,-0.36 ; 1.489,-0.187 1.839,-0.537 ; 1.489,0.184 2.038,-0.365 ; 1.491,-2.133 1.776,-2.418 ; 1.49,-0.171 1.845,-0.526 ; 1.491,0.164 2.025,-0.369 ; 1.492,1.507 1.992,1.007 ; 1.492,-0.155 1.852,-0.515 ; 1.492,2.603 2.604,1.491 ; 1.494,-0.139 1.859,-0.504 ; 1.493,0.145 2.012,-0.374 ; 1.495,-0.122 1.866,-0.493 ; 1.495,0.125 2,-0.38 ; 1.496,-0.106 1.873,-0.483 ; 1.496,0.106 1.988,-0.386 ; 1.497,-0.089 1.881,-0.473 ; 1.498,0.087 1.977,-0.392 ; 1.498,-0.073 1.889,-0.464 ; 1.499,-0.056 1.898,-0.455 ; 1.499,0.05 1.955,-0.406 ; 1.498,0.069 1.966,-0.399 ; 1.5,-0.039 1.907,-0.446 ; 1.5,-0.021 1.916,-0.437 ; 1.5,-0.004 1.925,-0.429 ; 1.5,0.014 1.935,-0.421 ; 1.5,0.032 1.945,-0.413 ; 1.502,-2.127 1.786,-2.411 ; 1.503,1.513 2.004,1.012 ; 1.514,-2.121 1.796,-2.403 ; 1.514,1.52 2.016,1.018 ; 1.525,-2.114 1.806,-2.396 ; 1.525,1.527 2.029,1.023 ; 1.534,2.578 2.579,1.534 ; 1.535,-2.107 1.816,-2.388 ; 1.536,1.534 2.042,1.028 ; 1.545,-2.1 1.826,-2.38 ; 1.546,1.541 2.056,1.032 ; 1.555,-2.092 1.836,-2.373 ; 1.556,1.549 2.07,1.035 ; 1.565,-2.084 1.846,-2.365 ; 1.566,1.557 2.084,1.039 ; 1.574,-2.075 1.856,-2.357 ; 1.575,1.566 2.099,1.041 ; 1.579,2.551 2.551,1.579 ; 1.583,-2.067 1.866,-2.349 ; 1.584,1.574 2.115,1.043 ; 1.592,-2.058 1.876,-2.342 ; 1.592,1.583 2.131,1.045 ; 1.6,-2.048 1.885,-2.334 ; 1.601,1.593 2.148,1.045 ; 1.608,-2.039 1.895,-2.326 ; 1.609,1.602 2.166,1.045 ; 1.616,-2.029 1.905,-2.318 ; 1.616,1.612 2.185,1.044 ; 1.623,-2.018 1.915,-2.31 ; 1.624,1.623 2.205,1.041 ; 1.628,2.52 2.521,1.627 ; 1.63,-2.008 1.924,-2.302 ; 1.631,1.634 2.227,1.037 ; 1.636,-1.642 2.118,-2.124 ; 1.637,-1.997 1.934,-2.294 ; 1.637,1.645 2.251,1.031 ; 1.643,-1.985 1.943,-2.286 ; 1.644,1.656 2.278,1.022 ; 1.649,-1.974 1.953,-2.277 ; 1.649,1.668 2.309,1.008 ; 1.653,1.965 2.918,0.7 ; 1.655,-1.962 1.962,-2.269 ; 1.655,-1.679 2.109,-2.133 ; 1.655,1.68 2.354,0.981 ; 1.66,-1.949 1.972,-2.261 ; 1.66,1.692 2.977,0.376 ; 1.665,-1.936 1.981,-2.253 ; 1.665,1.705 2.974,0.396 ; 1.665,1.935 2.923,0.677 ; 1.666,-1.708 2.1,-2.142 ; 1.669,-1.923 1.991,-2.244 ; 1.669,1.719 2.971,0.416 ; 1.673,-1.909 2,-2.236 ; 1.673,1.732 2.968,0.437 ; 1.673,1.91 2.929,0.654 ; 1.674,-1.733 2.091,-2.151 ; 1.677,-1.895 2.009,-2.228 ; 1.677,1.747 2.965,0.458 ; 1.678,1.887 2.934,0.631 ; 1.68,-1.88 2.019,-2.219 ; 1.679,-1.756 2.082,-2.159 ; 1.679,1.762 2.962,0.479 ; 1.68,2.486 2.486,1.679 ; 1.682,-1.865 2.028,-2.211 ; 1.682,-1.777 2.073,-2.168 ; 1.682,1.777 2.959,0.5 ; 1.681,1.866 2.938,0.609 ; 1.683,1.793 2.955,0.521 ; 1.683,1.846 2.943,0.587 ; 1.684,-1.849 2.037,-2.202 ; 1.685,-1.832 2.046,-2.194 ; 1.684,-1.796 2.064,-2.177 ; 1.684,1.81 2.951,0.543 ; 1.684,1.827 2.947,0.565 ; 1.685,-1.815 2.055,-2.185 ; 1.738,2.446 2.446,1.737 ; 1.804,2.397 2.398,1.803 ; 1.805,0.645 0.335,2.116 ; 1.884,2.335 2.335,1.884 ; 1.941,-0.975 2.549,-1.583 ; 1.96,0.402 2.944,-0.581 ; 1.989,-1.005 2.556,-1.572 ; 2.001,0.379 2.947,-0.566 ; 2.004,2.233 2.233,2.003 ; 2.022,-1.021 2.562,-1.561 ; 2.031,0.367 2.949,-0.552 ; 2.049,-1.03 2.569,-1.55 ; 2.057,0.358 2.952,-0.537 ; 2.073,-1.037 2.576,-1.539 ; 2.081,0.352 2.955,-0.522 ; 2.095,-1.041 2.582,-1.528 ; 2.102,0.349 2.957,-0.506 ; 2.116,-1.044 2.589,-1.517 ; 2.122,0.346 2.96,-0.491 ; 2.135,-1.045 2.595,-1.506 ; 2.141,0.345 2.962,-0.476 ; 2.153,-1.045 2.602,-1.494 ; 2.159,0.345 2.965,-0.461 ; 2.17,-1.045 2.608,-1.483 ; 2.176,0.346 2.967,-0.445 ; 2.186,-1.044 2.615,-1.472 ; 2.192,0.347 2.969,-0.43 ; 2.202,-1.042 2.621,-1.461 ; 2.207,0.35 2.972,-0.415 ; 2.217,-1.039 2.627,-1.449 ; 2.222,0.352 2.974,-0.399 ; 2.232,-1.036 2.634,-1.438 ; 2.237,0.356 2.976,-0.383 ; 2.246,-1.032 2.64,-1.426 ; 2.251,0.359 2.978,-0.368 ; 2.259,-1.028 2.646,-1.415 ; 2.264,0.364 2.98,-0.352 ; 2.273,-1.024 2.652,-1.403 ; 2.277,0.368 2.981,-0.336 ; 2.285,-1.019 2.658,-1.392 ; 2.29,0.373 2.983,-0.32 ; 2.298,-1.013 2.664,-1.38 ; 2.302,0.379 2.985,-0.304 ; 2.31,-1.008 2.67,-1.369 ; 2.314,0.385 2.986,-0.288 ; 2.321,-1.002 2.676,-1.357 ; 2.325,0.391 2.988,-0.272 ; 2.332,-0.995 2.682,-1.345 ; 2.336,0.398 2.989,-0.255 ; 2.343,-0.988 2.688,-1.333 ; 2.347,0.405 2.991,-0.239 ; 2.354,-0.981 2.694,-1.321 ; 2.357,0.412 2.992,-0.223 ; 2.364,-0.974 2.7,-1.31 ; 2.367,0.42 2.993,-0.206 ; 2.374,-0.966 2.706,-1.298 ; 2.377,0.427 2.994,-0.19 ; 2.383,-0.958 2.711,-1.286 ; 2.386,0.436 2.995,-0.173 ; 2.393,-0.949 2.717,-1.274 ; 2.396,0.444 2.996,-0.156 ; 2.401,-0.94 2.723,-1.262 ; 2.404,0.453 2.997,-0.139 ; 2.41,-0.931 2.728,-1.25 ; 2.413,0.462 2.998,-0.122 ; 2.421,0.472 2.998,-0.105 ; 2.426,-0.912 2.739,-1.225 ; 2.429,0.482 2.999,-0.088 ; 2.434,-0.902 2.745,-1.213 ; 2.436,0.492 2.999,-0.071 ; 2.437,0.898 2.979,0.356 ; 2.441,-0.892 2.75,-1.201 ; 2.444,0.502 3,-0.054 ; 2.448,-0.881 2.755,-1.188 ; 2.45,-0.512 2.857,-0.918 ; 2.45,0.513 3,-0.036 ; 2.455,-0.87 2.761,-1.176 ; 2.457,0.524 3,-0.019 ; 2.461,-0.859 2.766,-1.164 ; 2.463,0.536 3,-0.001 ; 2.464,0.853 2.981,0.336 ; 2.467,-0.847 2.771,-1.151 ; 2.469,0.548 3,0.017 ; 2.47,-0.55 2.852,-0.932 ; 2.473,-0.835 2.776,-1.139 ; 2.474,0.56 3,0.034 ; 2.478,-0.823 2.781,-1.126 ; 2.478,0.821 2.984,0.316 ; 2.479,0.573 3,0.052 ; 2.482,-0.579 2.848,-0.945 ; 2.483,-0.81 2.787,-1.113 ; 2.484,0.586 2.999,0.07 ; 2.487,-0.796 2.792,-1.101 ; 2.488,0.599 2.999,0.089 ; 2.487,0.794 2.986,0.296 ; 2.491,-0.782 2.797,-1.088 ; 2.49,-0.605 2.844,-0.958 ; 2.492,0.613 2.998,0.107 ; 2.493,0.771 2.987,0.277 ; 2.494,-0.768 2.802,-1.075 ; 2.495,-0.628 2.839,-0.972 ; 2.495,0.628 2.997,0.125 ; 2.497,-0.753 2.806,-1.063 ; 2.498,0.643 2.997,0.144 ; 2.498,0.749 2.989,0.257 ; 2.499,-0.738 2.811,-1.05 ; 2.499,-0.649 2.835,-0.985 ; 2.5,0.658 2.996,0.162 ; 2.501,-0.722 2.816,-1.037 ; 2.501,-0.669 2.83,-0.998 ; 2.501,0.675 2.995,0.181 ; 2.5,0.729 2.991,0.238 ; 2.502,-0.705 2.821,-1.024 ; 2.502,-0.687 2.825,-1.011 ; 2.502,0.692 2.993,0.2 ; 2.501,0.71 2.992,0.219 ; 2.734,-1.237 2.418,-0.922 ; 2.912,0.723 1.633,2.002 ; 0.335,2.116 cw(c0.012,2.25) -0.122,1.927 cw(c0.012,2.25) -0.311,2.384 cw(c0.012,2.25) 0.146,2.573 cw(c0.012,2.25) 0.335,2.116 ; 1.633,2.003 ccw(c1.334,1.82) 1.152,2.119 ccw(c1.335,1.82) 1.036,1.637 ccw(c1.335,1.82) 1.517,1.522 ccw(c1.334,1.82) 1.633,2.003 ; 2.418,-0.923 ccw(c2.152,-0.695) 2.379,-0.429 ccw(c2.152,-0.696) 1.886,-0.468 ccw(c2.152,-0.695) 1.924,-0.962 ccw(c2.152,-0.695) 2.418,-0.923 ; -3,0 ccw(c0,0) 0,-3 ccw(c0,0) 3,0 ccw(c0,0) 0,3 ccw(c0,0) -3,0 ; -2.477,-0.668 ccw(c-2.128,-0.695) -2.155,-1.044 ccw(c-2.128,-0.695) -1.779,-0.723 ccw(c-2.128,-0.695) -2.1,-0.346 ccw(c-2.127,-0.695) -2.477,-0.668 ; -2.394,0.922 ccw(c-2.128,0.695) -2.355,0.429 ccw(c-2.128,0.695) -1.862,0.468 ccw(c-2.128,0.695) -1.9,0.961 ccw(c-2.128,0.695) -2.394,0.922 ; -1.651,1.738 ccw(c-1.311,1.82) -1.229,1.48 ccw(c-1.31,1.82) -0.97,1.902 ccw(c-1.311,1.82) -1.392,2.16 ccw(c-1.311,1.82) -1.651,1.738 ; -1.609,-2.003 ccw(c-1.31,-1.82) -1.128,-2.119 ccw(c-1.311,-1.82) -1.012,-1.638 ccw(c-1.311,-1.82) -1.493,-1.522 ccw(c-1.31,-1.82) -1.609,-2.003 ; -1.5,0 ccw(c0,0) 0,-1.5 ccw(c0,0) 1.5,0 ccw(c0,0) 0,1.5 ccw(c0,0) -1.5,0 ; -0.311,-2.116 ccw(c0.012,-2.25) -0.122,-2.573 ccw(c0.012,-2.25) 0.335,-2.384 ccw(c0.012,-2.25) 0.146,-1.927 ccw(c0.012,-2.25) -0.311,-2.116 ; 0.994,-1.902 ccw(c1.334,-1.82) 1.416,-2.161 ccw(c1.335,-1.82) 1.675,-1.739 ccw(c1.334,-1.821) 1.253,-1.48 ccw(c1.334,-1.82) 0.994,-1.902 ; 1.803,0.722 ccw(c2.152,0.695) 2.124,0.346 ccw(c2.152,0.695) 2.5,0.668 ccw(c2.152,0.695) 2.179,1.044 ccw(c2.152,0.695) 1.803,0.722
Bottom Layer:
  lines w0.013: -2.999,-0.065 -2.464,-0.6 ; -3,-0.047 -2.46,-0.587 ; -3,-0.029 -2.456,-0.573 ; -3,-0.012 -2.451,-0.561 ; -3,0.006 -2.445,-0.548 ; -3,0.024 -2.44,-0.537 ; -3,0.041 -2.433,-0.525 ; -2.999,0.059 -2.427,-0.514 ; -2.998,-0.102 -2.471,-0.629 ; -2.999,-0.083 -2.468,-0.614 ; -2.999,0.076 -2.42,-0.503 ; -2.999,0.093 -2.413,-0.493 ; -2.998,0.11 -2.405,-0.482 ; -2.997,-0.138 -2.476,-0.659 ; -2.998,-0.12 -2.474,-0.644 ; -2.997,0.127 -2.397,-0.473 ; -2.997,0.144 -2.389,-0.463 ; -2.996,-0.157 -2.477,-0.676 ; -2.996,0.161 -2.381,-0.454 ; -2.995,-0.176 -2.478,-0.693 ; -2.995,0.178 -2.372,-0.445 ; -2.994,-0.194 -2.477,-0.711 ; -2.994,0.194 -2.363,-0.436 ; -2.993,-0.213 -2.476,-0.73 ; -2.993,0.211 -2.354,-0.428 ; -2.992,0.228 -2.344,-0.42 ; -2.991,-0.232 -2.473,-0.75 ; -2.99,0.244 -2.334,-0.413 ; -2.99,-0.252 -2.469,-0.772 ; -2.988,-0.271 -2.463,-0.796 ; -2.989,0.26 -2.323,-0.405 ; -2.987,0.276 -2.313,-0.398 ; -2.986,-0.291 -2.454,-0.823 ; -2.986,0.293 -2.302,-0.392 ; -2.984,-0.31 -2.439,-0.855 ; -2.984,0.309 -2.29,-0.385 ; -2.983,0.325 -2.278,-0.379 ; -2.982,-0.33 -2.41,-0.902 ; -2.981,0.341 -2.266,-0.374 ; -2.98,-0.35 -1.636,-1.693 ; -2.979,0.356 -2.254,-0.369 ; -2.977,-0.37 -1.641,-1.706 ; -2.977,0.372 -2.241,-0.364 ; -2.975,0.388 -2.227,-0.36 ; -2.975,-0.39 -1.645,-1.72 ; -2.973,0.404 -2.214,-0.356 ; -2.972,-0.411 -1.649,-1.733 ; -2.971,0.419 -2.199,-0.353 ; -2.969,-0.431 -1.653,-1.748 ; -2.969,0.435 -2.184,-0.35 ; -2.966,-0.452 -1.655,-1.763 ; -2.966,0.45 -2.169,-0.348 ; -2.964,0.465 -2.153,-0.346 ; -2.963,-0.473 -1.658,-1.778 ; -2.962,0.481 -2.136,-0.345 ; -2.96,-0.494 -1.659,-1.794 ; -2.959,0.496 -2.118,-0.345 ; -2.957,0.511 -2.099,-0.347 ; -2.956,-0.515 -1.66,-1.811 ; -2.954,0.526 -2.079,-0.349 ; -2.952,-0.537 -1.66,-1.829 ; -2.951,0.541 -2.058,-0.352 ; -2.949,0.556 -2.035,-0.358 ; -2.948,-0.558 -1.659,-1.847 ; -2.946,0.571 -2.009,-0.366 ; -2.944,-0.58 -1.657,-1.867 ; -2.943,0.586 -1.979,-0.379 ; -2.939,-0.602 -1.654,-1.888 ; -2.94,0.6 -1.939,-0.4 ; -2.937,0.615 -0.274,-2.048 ; -2.935,-0.625 -1.648,-1.911 ; -2.934,0.629 -0.267,-2.038 ; -2.931,0.644 -0.259,-2.028 ; -2.93,-0.647 -1.64,-1.937 ; -2.928,0.659 -0.251,-2.018 ; -2.925,-0.67 -1.628,-1.967 ; -2.924,0.673 -0.242,-2.009 ; -2.921,0.687 -0.233,-2 ; -2.92,-0.693 -1.608,-2.005 ; -2.918,0.702 -0.224,-1.992 ; -2.914,0.716 -0.215,-1.983 ; -2.914,-0.716 -0.716,-2.914 ; -2.911,0.73 -0.205,-1.975 ; -2.908,-0.74 -0.74,-2.908 ; -2.907,0.744 -0.195,-1.968 ; -2.903,0.758 -0.185,-1.961 ; -2.902,-0.764 -0.764,-2.902 ; -2.9,0.772 -0.174,-1.954 ; -2.895,-0.788 -0.788,-2.895 ; -2.896,0.786 -1.165,-0.944 ; -2.892,0.8 -1.222,-0.87 ; -2.889,-0.812 -0.812,-2.889 ; -2.888,0.814 -1.259,-0.815 ; -2.884,0.828 -1.289,-0.768 ; -2.882,-0.837 -0.837,-2.882 ; -2.88,0.841 -1.313,-0.727 ; -2.876,0.855 -1.333,-0.688 ; -2.874,-0.862 -0.862,-2.874 ; -2.872,0.869 -1.351,-0.653 ; -2.868,0.882 -1.366,-0.62 ; -2.867,-0.887 -0.887,-2.866 ; -2.864,0.896 -1.38,-0.588 ; -2.86,0.909 -1.393,-0.558 ; -2.858,-0.913 -0.913,-2.858 ; -2.856,0.922 -1.404,-0.529 ; -2.851,0.936 -2.424,0.509 ; -2.85,-0.939 -0.939,-2.85 ; -2.847,0.949 -2.445,0.548 ; -2.842,0.962 -2.458,0.577 ; -2.841,-0.966 -0.966,-2.841 ; -2.838,0.975 -2.466,0.603 ; -2.833,0.989 -2.471,0.626 ; -2.832,-0.993 -0.993,-2.832 ; -2.829,1.002 -2.475,0.648 ; -2.824,1.015 -2.477,0.667 ; -2.822,-1.02 -1.02,-2.822 ; -2.819,1.028 -2.478,0.686 ; -2.815,1.041 -2.478,0.704 ; -2.812,-1.048 -1.048,-2.812 ; -2.81,1.053 -2.477,0.721 ; -2.805,1.066 -2.475,0.737 ; -2.801,-1.077 -1.077,-2.801 ; -2.8,1.079 -2.473,0.752 ; -2.795,1.092 -2.47,0.767 ; -2.79,-1.106 -1.106,-2.79 ; -2.79,1.104 -2.467,0.781 ; -2.785,1.117 -2.463,0.795 ; -2.78,1.13 -2.459,0.809 ; -2.778,-1.135 -1.135,-2.778 ; -2.775,1.142 -2.454,0.822 ; -2.77,1.155 -2.449,0.834 ; -2.765,-1.166 -1.166,-2.765 ; -2.764,1.167 -2.444,0.846 ; -2.759,1.18 -2.438,0.858 ; -2.754,1.192 -2.431,0.869 ; -2.752,-1.197 -1.197,-2.752 ; -2.748,1.204 -2.425,0.881 ; -2.743,1.217 -2.418,0.891 ; -2.738,-1.228 -1.228,-2.738 ; -2.738,1.229 -2.41,0.902 ; -2.732,1.241 -2.403,0.912 ; -2.727,1.253 -2.395,0.921 ; -2.723,-1.261 -1.261,-2.723 ; -2.721,1.265 -2.387,0.931 ; -2.715,1.277 -2.378,0.94 ; -2.71,1.289 -2.369,0.949 ; -2.707,-1.294 -1.294,-2.707 ; -2.704,1.301 -2.36,0.957 ; -2.698,1.313 -2.35,0.965 ; -2.692,1.325 -2.341,0.973 ; -2.69,-1.329 -1.329,-2.69 ; -2.686,1.337 -2.33,0.981 ; -2.681,1.348 -2.32,0.988 ; -2.675,1.36 -2.309,0.995 ; -2.672,-1.364 -1.364,-2.672 ; -2.669,1.372 -2.298,1.001 ; -2.663,1.384 -2.286,1.007 ; -2.657,1.395 -2.274,1.013 ; -2.653,-1.401 -1.401,-2.653 ; -2.65,1.407 -2.262,1.018 ; -2.644,1.418 -2.249,1.023 ; -2.638,1.43 -2.236,1.028 ; -2.633,-1.439 -1.44,-2.633 ; -2.632,1.441 -2.223,1.032 ; -2.625,1.453 -2.209,1.036 ; -2.619,1.464 -2.194,1.039 ; -2.613,1.475 -2.179,1.041 ; -2.61,-1.479 -1.479,-2.61 ; -2.606,1.486 -2.163,1.043 ; -2.6,1.498 -2.147,1.045 ; -2.593,1.509 -2.13,1.045 ; -2.587,1.52 -2.112,1.045 ; -2.586,-1.521 -1.521,-2.586 ; -2.58,1.531 -2.093,1.043 ; -2.574,1.542 -2.072,1.041 ; -2.567,1.553 -2.051,1.037 ; -2.56,1.564 -2.027,1.03 ; -2.559,-1.566 -1.566,-2.559 ; -2.554,1.575 -2,1.021 ; -2.547,1.586 -1.967,1.006 ; -2.54,1.597 -1.921,0.978 ; -2.533,1.608 -1.417,0.492 ; -2.53,-1.613 -1.613,-2.53 ; -2.526,1.618 -1.413,0.505 ; -2.519,1.629 -1.408,0.518 ; -2.512,1.64 -1.403,0.531 ; -2.505,1.651 -1.398,0.544 ; -2.498,1.661 -1.393,0.556 ; -2.497,-1.664 -1.664,-2.496 ; -2.491,1.672 -1.388,0.569 ; -2.484,1.682 -1.383,0.581 ; -2.477,1.693 -1.378,0.594 ; -2.47,1.703 -1.372,0.606 ; -2.463,1.714 -1.367,0.618 ; -2.458,-1.72 -1.72,-2.458 ; -2.455,1.724 -1.361,0.63 ; -2.448,1.735 -1.356,0.642 ; -2.441,1.745 -1.35,0.654 ; -2.433,1.755 -1.344,0.666 ; -2.426,1.765 -1.338,0.678 ; -2.418,1.776 -1.332,0.69 ; -2.413,-1.783 -1.783,-2.413 ; -2.411,1.786 -1.326,0.701 ; -2.403,1.796 -1.32,0.713 ; -2.396,1.806 -1.314,0.724 ; -2.388,1.816 -1.308,0.736 ; -2.38,1.826 -1.301,0.747 ; -2.373,1.836 -1.295,0.758 ; -2.365,1.846 -1.288,0.769 ; -2.357,1.856 -1.281,0.78 ; -2.355,-1.858 -1.859,-2.355 ; -2.349,1.866 -1.275,0.791 ; -2.341,1.876 -1.268,0.802 ; -2.334,-0.978 -1.631,-1.681 ; -2.334,1.885 -1.261,0.813 ; -2.326,1.895 -1.254,0.823 ; -2.318,1.905 -1.247,0.834 ; -2.314,0.399 -1.414,-0.501 ; -2.31,1.914 -1.24,0.845 ; -2.302,1.924 -1.233,0.855 ; -2.294,1.934 -1.225,0.865 ; -2.287,-1.007 -1.626,-1.669 ; -2.285,1.943 -1.218,0.876 ; -2.277,1.953 -1.21,0.886 ; -2.275,0.378 -1.423,-0.474 ; -2.271,-1.96 -1.96,-2.271 ; -2.269,1.962 -1.203,0.896 ; -2.261,1.972 -1.195,0.906 ; -2.255,-1.021 -1.62,-1.657 ; -2.253,1.981 -1.188,0.916 ; -2.245,0.365 -1.432,-0.448 ; -2.244,1.991 -1.18,0.926 ; -2.236,2 -1.172,0.936 ; -2.228,-1.031 -1.614,-1.645 ; -2.228,2.009 -1.164,0.946 ; -2.22,0.357 -1.44,-0.423 ; -2.219,2.019 -1.156,0.956 ; -2.211,2.028 -1.148,0.965 ; -2.204,-1.037 -1.607,-1.634 ; -2.202,2.037 -1.14,0.975 ; -2.197,0.352 -1.447,-0.398 ; -2.194,2.046 -1.132,0.984 ; -2.185,2.055 -1.124,0.994 ; -2.183,-1.041 -1.6,-1.624 ; -2.177,2.064 -1.115,1.003 ; -2.175,0.348 -1.453,-0.374 ; -2.168,2.073 -1.107,1.012 ; -2.162,-1.044 -1.593,-1.613 ; -2.159,2.082 -1.098,1.021 ; -2.156,0.346 -1.459,-0.351 ; -2.151,2.091 -1.09,1.031 ; -2.143,-1.045 -1.585,-1.603 ; -2.142,2.1 -1.081,1.04 ; -2.137,0.345 -1.464,-0.328 ; -2.133,2.109 -1.073,1.049 ; -2.125,-1.045 -1.577,-1.593 ; -2.124,2.118 -1.064,1.057 ; -2.119,0.345 -1.469,-0.305 ; -2.116,2.127 -1.055,1.066 ; -2.108,-1.045 -1.569,-1.584 ; -2.107,2.136 -1.611,1.64 ; -2.102,0.346 -1.473,-0.283 ; -2.098,2.144 -1.63,1.677 ; -2.092,-1.044 -1.56,-1.575 ; -2.089,2.153 -1.642,1.706 ; -2.086,0.348 -1.477,-0.261 ; -2.08,2.162 -1.649,1.731 ; -2.076,-1.042 -1.551,-1.566 ; -2.071,0.35 -1.481,-0.24 ; -2.071,2.171 -1.654,1.754 ; -2.061,-1.039 -1.542,-1.558 ; -2.062,2.179 -1.658,1.775 ; -2.056,0.353 -1.484,-0.219 ; -2.053,2.188 -1.66,1.795 ; -2.046,-1.036 -1.532,-1.55 ; -2.043,2.196 -1.661,1.813 ; -2.042,0.356 -1.487,-0.199 ; -2.034,2.205 -1.661,1.831 ; -2.032,-1.032 -1.523,-1.542 ; -2.028,0.36 -1.489,-0.178 ; -2.025,2.213 -1.66,1.848 ; -2.019,-1.028 -1.512,-1.534 ; -2.016,2.222 -1.658,1.864 ; -2.014,0.364 -1.492,-0.159 ; -2.007,2.23 -1.656,1.879 ; -2.006,-1.023 -1.502,-1.527 ; -2.001,0.369 -1.494,-0.139 ; -1.997,2.238 -1.653,1.894 ; -1.993,-1.018 -1.491,-1.52 ; -1.989,0.374 -1.495,-0.12 ; -1.988,2.247 -1.649,1.908 ; -1.981,-1.013 -1.48,-1.514 ; -1.978,2.255 -1.645,1.922 ; -1.977,0.379 -1.497,-0.101 ; -1.969,-1.007 -1.468,-1.508 ; -1.969,2.263 -1.641,1.935 ; -1.965,0.385 -1.498,-0.082 ; -1.96,2.271 -1.636,1.948 ; -1.957,-1.001 -1.456,-1.502 ; -1.954,0.392 -1.499,-0.063 ; -1.95,2.28 -1.631,1.961 ; -1.946,-0.994 -1.444,-1.497 ; -1.943,0.398 -1.499,-0.045 ; -1.94,2.288 -1.626,1.973 ; -1.935,-0.988 -1.431,-1.492 ; -1.932,0.405 -1.5,-0.027 ; -1.931,2.296 -1.62,1.985 ; -1.925,-0.98 -1.418,-1.487 ; -1.921,0.413 -1.5,-0.009 ; -1.921,2.304 -1.613,1.996 ; -1.915,-0.973 -1.405,-1.483 ; -1.911,0.42 -1.5,0.009 ; -1.912,2.312 -1.607,2.007 ; -1.905,-0.965 -1.391,-1.479 ; -1.902,2.32 -1.6,2.018 ; -1.902,0.428 -1.5,0.026 ; -1.895,-0.957 -1.376,-1.476 ; -1.892,0.436 -1.499,0.044 ; -1.892,2.328 -1.592,2.028 ; -1.886,-0.948 -1.361,-1.474 ; -1.883,0.445 -1.499,0.061 ; -1.882,2.336 -1.585,2.038 ; -1.877,-0.94 -1.345,-1.472 ; -1.874,0.454 -1.498,0.078 ; -1.873,2.344 -1.577,2.048 ; -1.869,-0.93 -1.329,-1.471 ; -1.866,0.463 -1.497,0.094 ; -1.863,2.352 -1.568,2.057 ; -1.861,-0.921 -1.311,-1.47 ; -1.858,0.473 -1.496,0.111 ; -1.853,-0.911 -1.293,-1.471 ; -1.853,2.359 -1.56,2.066 ; -1.85,0.483 -1.495,0.127 ; -1.845,-0.901 -1.274,-1.472 ; -1.845,0.902 -1.422,0.479 ; -1.842,0.493 -1.493,0.143 ; -1.843,2.367 -1.551,2.075 ; -1.838,-0.891 -1.254,-1.475 ; -1.835,0.503 -1.492,0.16 ; -1.833,-0.506 -0.281,-2.059 ; -1.833,2.375 -1.541,2.083 ; -1.831,-0.88 -1.232,-1.479 ; -1.828,0.514 -1.49,0.175 ; -1.824,-0.869 -1.207,-1.486 ; -1.822,0.525 -1.488,0.191 ; -1.823,2.382 -1.532,2.091 ; -1.818,-0.858 -1.18,-1.496 ; -1.816,0.537 -1.486,0.207 ; -1.816,0.856 -1.426,0.465 ; -1.813,2.39 -1.522,2.099 ; -1.812,-0.846 -1.147,-1.511 ; -1.811,-0.546 -0.288,-2.069 ; -1.81,0.549 -1.484,0.222 ; -1.807,-0.834 -1.098,-1.542 ; -1.805,0.561 -1.481,0.238 ; -1.803,2.398 -1.512,2.107 ; -1.802,0.823 -1.431,0.452 ; -1.801,-0.821 -0.336,-2.286 ; -1.8,0.574 -1.479,0.253 ; -1.799,-0.576 -0.294,-2.081 ; -1.797,-0.808 -0.338,-2.267 ; -1.795,0.587 -1.476,0.268 ; -1.793,2.405 -1.501,2.114 ; -1.792,-0.795 -0.338,-2.249 ; -1.793,0.796 -1.435,0.439 ; -1.791,-0.602 -0.301,-2.092 ; -1.791,0.6 -1.473,0.283 ; -1.789,-0.781 -0.338,-2.232 ; -1.787,0.614 -1.47,0.297 ; -1.786,0.772 -1.439,0.425 ; -1.785,-0.766 -0.336,-2.215 ; -1.785,-0.625 -0.306,-2.104 ; -1.784,0.629 -1.467,0.312 ; -1.783,-0.752 -0.335,-2.2 ; -1.783,2.413 -1.49,2.121 ; -1.781,-0.647 -0.312,-2.116 ; -1.782,0.644 -1.464,0.327 ; -1.782,0.751 -1.443,0.411 ; -1.78,-0.736 -0.332,-2.185 ; -1.779,-0.72 -0.329,-2.17 ; -1.779,-0.667 -0.317,-2.129 ; -1.78,0.66 -1.461,0.341 ; -1.779,0.73 -1.447,0.397 ; -1.778,-0.703 -0.325,-2.156 ; -1.778,-0.685 -0.321,-2.142 ; -1.778,0.676 -1.458,0.355 ; -1.778,0.693 -1.454,0.37 ; -1.778,0.711 -1.45,0.384 ; -1.773,2.42 -1.479,2.127 ; -1.762,2.428 -1.468,2.133 ; -1.752,2.435 -1.456,2.139 ; -1.742,2.443 -1.443,2.144 ; -1.731,2.45 -1.43,2.149 ; -1.721,2.457 -1.417,2.153 ; -1.711,2.465 -1.404,2.158 ; -1.7,2.472 -1.39,2.161 ; -1.69,2.479 -1.375,2.164 ; -1.679,2.486 -1.36,2.167 ; -1.669,2.493 -1.344,2.169 ; -1.658,2.5 -1.327,2.17 ; -1.647,2.507 -1.31,2.17 ; -1.637,2.514 -1.292,2.17 ; -1.626,2.521 -1.273,2.168 ; -1.615,2.528 -1.252,2.165 ; -1.604,2.535 -1.23,2.161 ; -1.594,2.542 -1.206,2.154 ; -1.583,2.549 -1.178,2.144 ; -1.572,2.556 -1.145,2.128 ; -1.561,2.562 -1.093,2.095 ; -1.55,2.569 -0.421,1.44 ; -1.539,2.576 -0.407,1.444 ; -1.528,2.582 -0.393,1.448 ; -1.517,2.589 -0.379,1.452 ; -1.505,2.595 -0.365,1.455 ; -1.495,-2.118 -0.693,-2.919 ; -1.494,2.602 -0.351,1.459 ; -1.492,1.521 -1.046,1.075 ; -1.483,2.608 -0.337,1.462 ; -1.472,2.615 -0.322,1.465 ; -1.46,2.621 -0.308,1.468 ; -1.457,-2.138 -0.67,-2.925 ; -1.454,1.501 -1.037,1.084 ; -1.449,2.627 -0.293,1.471 ; -1.438,2.633 -0.278,1.474 ; -1.427,-2.15 -0.647,-2.93 ; -1.426,2.64 -0.263,1.477 ; -1.425,1.489 -1.028,1.092 ; -1.415,2.646 -0.248,1.479 ; -1.403,2.652 -0.233,1.482 ; -1.401,-2.158 -0.625,-2.935 ; -1.4,1.482 -1.019,1.101 ; -1.392,2.658 -0.218,1.484 ; -1.38,2.664 -0.202,1.486 ; -1.378,-2.164 -0.602,-2.939 ; -1.377,1.476 -1.01,1.109 ; -1.368,2.67 -0.187,1.488 ; -1.357,-2.167 -0.58,-2.944 ; -1.357,2.676 -0.171,1.49 ; -1.356,1.473 -1,1.118 ; -1.345,2.682 -0.155,1.492 ; -1.337,-2.169 -0.558,-2.948 ; -1.336,1.471 -0.991,1.126 ; -1.333,2.688 -0.139,1.494 ; -1.321,2.694 -0.122,1.495 ; -1.319,-2.17 -0.537,-2.952 ; -1.317,1.47 -0.981,1.134 ; -1.309,2.7 -0.106,1.496 ; -1.301,-2.17 -0.515,-2.956 ; -1.3,1.47 -0.972,1.142 ; -1.297,2.705 -0.089,1.497 ; -1.286,2.711 -0.073,1.498 ; -1.284,-2.169 -0.494,-2.959 ; -1.283,1.471 -0.962,1.151 ; -1.274,2.717 -0.056,1.499 ; -1.268,-2.168 -0.473,-2.963 ; -1.267,1.473 -0.953,1.159 ; -1.261,2.722 -0.038,1.499 ; -1.253,-2.166 -0.452,-2.966 ; -1.252,1.475 -0.943,1.167 ; -1.249,2.728 -0.021,1.5 ; -1.238,-2.163 -0.431,-2.969 ; -1.237,1.478 -0.933,1.174 ; -1.237,2.734 -0.004,1.5 ; -1.225,2.739 0.014,1.5 ; -1.223,-2.159 -0.411,-2.972 ; -1.223,1.481 -0.923,1.182 ; -1.213,2.745 0.032,1.5 ; -1.21,-2.155 -0.39,-2.975 ; -1.209,1.485 -0.913,1.19 ; -1.201,2.75 0.05,1.499 ; -1.196,-2.151 -0.37,-2.977 ; -1.195,1.49 -0.903,1.198 ; -1.188,2.755 0.069,1.498 ; -1.183,-2.146 -0.35,-2.98 ; -1.182,1.494 -0.893,1.205 ; -1.176,2.761 0.087,1.497 ; -1.171,-2.141 -0.33,-2.982 ; -1.17,1.5 -0.883,1.213 ; -1.163,2.766 0.106,1.496 ; -1.159,-2.136 -0.31,-2.984 ; -1.158,1.505 -0.873,1.22 ; -1.151,2.771 0.125,1.495 ; -1.147,-2.13 -0.291,-2.986 ; -1.146,1.511 -0.862,1.227 ; -1.138,2.776 0.145,1.493 ; -1.136,-2.123 -0.271,-2.988 ; -1.135,1.517 -0.852,1.235 ; -1.126,2.781 0.164,1.491 ; -1.124,-2.117 -0.252,-2.99 ; -1.124,1.524 -0.842,1.242 ; -1.114,-2.11 -0.233,-2.991 ; -1.113,2.786 0.184,1.489 ; -1.113,1.531 -0.831,1.249 ; -1.103,-2.103 -0.213,-2.992 ; -1.103,1.538 -0.82,1.256 ; -1.101,2.791 0.205,1.486 ; -1.093,-2.095 -0.195,-2.994 ; -1.093,1.546 -0.81,1.263 ; -1.088,2.796 0.225,1.483 ; -1.084,-2.087 -0.176,-2.995 ; -1.083,1.554 -0.799,1.27 ; -1.075,2.801 0.246,1.48 ; -1.074,-2.079 -0.157,-2.996 ; -1.074,1.562 -0.788,1.277 ; -1.065,-2.07 -0.138,-2.997 ; -1.065,1.571 -0.777,1.283 ; -1.062,2.806 0.268,1.476 ; -1.056,-2.061 -0.12,-2.998 ; -1.056,1.58 -0.766,1.29 ; -1.05,2.811 0.289,1.472 ; -1.048,-2.052 -0.102,-2.998 ; -1.047,1.589 -0.755,1.296 ; -1.04,-2.042 -0.083,-2.999 ; -1.039,1.599 -0.744,1.303 ; -1.037,2.816 -0.284,2.063 ; -1.035,2.036 -0.435,1.436 ; -1.033,-1.607 -0.333,-2.307 ; -1.032,-2.032 -0.065,-2.999 ; -1.032,1.609 -0.732,1.309 ; -1.025,-2.022 -0.047,-3 ; -1.024,1.619 -0.721,1.316 ; -1.024,2.821 -0.305,2.102 ; -1.017,-2.012 -0.029,-3 ; -1.017,1.629 -0.709,1.322 ; -1.011,-2.001 -0.012,-3 ; -1.011,2.825 -0.317,2.132 ; -1.01,1.64 -0.698,1.328 ; -1.004,-1.99 0.006,-3 ; -1.004,1.651 -0.686,1.334 ; -1.002,-1.656 -0.329,-2.329 ; -1.002,1.985 -0.448,1.432 ; -0.998,-1.978 0.024,-3 ; -0.998,2.83 -0.326,2.158 ; -0.998,1.663 -0.675,1.34 ; -0.992,-1.966 0.041,-3 ; -0.992,1.675 -0.663,1.346 ; -0.987,-1.954 0.059,-2.999 ; -0.986,1.687 -0.651,1.352 ; -0.986,-1.69 -0.322,-2.353 ; -0.986,1.952 -0.462,1.428 ; -0.985,2.834 -0.331,2.181 ; -0.982,-1.941 0.076,-2.999 ; -0.982,1.7 -0.639,1.357 ; -0.978,-1.928 0.093,-2.999 ; -0.976,-1.717 -0.313,-2.381 ; -0.977,1.713 -0.627,1.363 ; -0.976,1.925 -0.475,1.423 ; -0.973,-1.914 0.11,-2.998 ; -0.973,1.727 -0.615,1.369 ; -0.971,2.839 -0.335,2.202 ; -0.97,-1.9 0.127,-2.997 ; -0.97,-1.741 -0.297,-2.414 ; -0.969,1.741 -0.602,1.374 ; -0.97,1.9 -0.488,1.419 ; -0.967,-1.886 0.144,-2.997 ; -0.966,1.755 -0.59,1.379 ; -0.965,-1.763 -0.265,-2.463 ; -0.965,1.878 -0.501,1.414 ; -0.964,-1.87 0.161,-2.996 ; -0.964,1.771 -0.578,1.385 ; -0.962,-1.855 0.178,-2.995 ; -0.963,-1.784 0.244,-2.99 ; -0.962,1.858 -0.514,1.409 ; -0.961,-1.838 0.194,-2.994 ; -0.961,-1.803 0.227,-2.991 ; -0.962,1.786 -0.565,1.39 ; -0.961,-1.821 0.211,-2.993 ; -0.961,1.803 -0.553,1.395 ; -0.96,1.82 -0.54,1.4 ; -0.961,1.838 -0.527,1.405 ; -0.958,2.843 -0.337,2.222 ; -0.944,-1.166 -0.163,-1.947 ; -0.945,2.848 -0.338,2.241 ; -0.932,2.852 -0.338,2.259 ; -0.918,2.857 -0.337,2.275 ; -0.905,2.861 -0.336,2.292 ; -0.891,2.865 -0.333,2.307 ; -0.878,2.869 -0.331,2.322 ; -0.87,-1.222 -0.152,-1.941 ; -0.864,2.873 -0.327,2.336 ; -0.851,2.877 -0.323,2.35 ; -0.837,2.881 -0.319,2.363 ; -0.823,2.885 -0.314,2.376 ; -0.815,-1.26 -0.14,-1.935 ; -0.81,2.889 -0.309,2.389 ; -0.796,2.893 -0.304,2.401 ; -0.782,2.897 -0.298,2.413 ; -0.768,-1.289 -0.128,-1.929 ; -0.768,2.901 -0.292,2.424 ; -0.754,2.904 -0.285,2.435 ; -0.74,2.908 -0.278,2.446 ; -0.726,-1.313 -0.115,-1.924 ; -0.726,2.911 -0.271,2.456 ; -0.711,2.915 -0.263,2.466 ; -0.697,2.918 -0.255,2.476 ; -0.688,-1.333 -0.102,-1.919 ; -0.683,2.922 -0.247,2.486 ; -0.669,2.925 -0.238,2.495 ; -0.654,2.928 -0.229,2.503 ; -0.653,-1.351 -0.089,-1.915 ; -0.64,2.931 -0.22,2.512 ; -0.625,2.935 -0.211,2.52 ; -0.62,-1.366 -0.075,-1.911 ; -0.61,2.938 -0.201,2.528 ; -0.596,2.941 -0.191,2.535 ; -0.588,-1.38 -0.061,-1.908 ; -0.581,2.944 -0.18,2.543 ; -0.566,2.946 -0.169,2.549 ; -0.558,-1.393 -0.046,-1.905 ; -0.551,2.949 -0.158,2.556 ; -0.536,2.952 -0.146,2.562 ; -0.529,-1.404 -0.031,-1.903 ; -0.521,2.955 -0.134,2.568 ; -0.506,2.957 -0.122,2.573 ; -0.501,-1.414 -0.014,-1.901 ; -0.491,2.96 -0.109,2.578 ; -0.476,2.962 -0.096,2.583 ; -0.474,-1.424 0.002,-1.9 ; -0.461,2.965 -0.083,2.587 ; -0.448,-1.432 0.02,-1.9 ; -0.445,2.967 -0.069,2.59 ; -0.43,2.969 -0.054,2.593 ; -0.423,-1.44 0.039,-1.901 ; -0.414,2.971 -0.039,2.596 ; -0.399,2.973 -0.023,2.598 ; -0.398,-1.447 0.058,-1.903 ; -0.383,2.976 -0.007,2.599 ; -0.374,-1.453 0.08,-1.907 ; -0.367,2.977 0.01,2.6 ; -0.352,2.979 0.028,2.599 ; -0.35,-1.459 0.103,-1.912 ; -0.336,2.981 0.047,2.598 ; -0.327,-1.464 0.128,-1.92 ; -0.32,2.983 0.068,2.595 ; -0.305,-1.469 0.158,-1.932 ; -0.304,2.985 0.09,2.591 ; -0.288,2.986 0.114,2.585 ; -0.283,-1.473 0.196,-1.952 ; -0.272,2.988 0.141,2.575 ; -0.261,-1.477 1.066,-2.805 ; -0.255,2.989 0.174,2.56 ; -0.24,-1.481 1.079,-2.8 ; -0.239,2.99 0.221,2.531 ; -0.223,2.992 0.987,1.782 ; -0.219,-1.484 1.092,-2.795 ; -0.206,2.993 0.985,1.802 ; -0.201,-2.527 0.26,-2.989 ; -0.199,-1.487 1.104,-2.79 ; -0.189,2.994 0.985,1.82 ; -0.178,-1.49 1.117,-2.785 ; -0.175,1.954 0.312,1.468 ; -0.173,2.995 0.985,1.837 ; -0.158,-1.492 1.13,-2.78 ; -0.156,2.996 0.986,1.854 ; -0.152,-2.559 0.276,-2.987 ; -0.139,2.997 0.988,1.869 ; -0.139,-1.494 1.142,-2.775 ; -0.136,1.933 0.334,1.463 ; -0.122,2.997 0.991,1.885 ; -0.119,-2.574 0.293,-2.986 ; -0.12,-1.495 1.155,-2.77 ; -0.106,1.921 0.357,1.457 ; -0.105,2.998 0.994,1.899 ; -0.1,-1.497 1.167,-2.764 ; -0.091,-2.584 0.309,-2.984 ; -0.088,2.999 0.997,1.913 ; -0.082,-1.498 1.18,-2.759 ; -0.08,1.912 0.381,1.451 ; -0.071,2.999 1.001,1.927 ; -0.067,-2.591 0.325,-2.983 ; -0.063,-1.499 1.192,-2.754 ; -0.057,1.907 0.405,1.445 ; -0.053,2.999 1.006,1.94 ; -0.045,-2.595 0.341,-2.981 ; -0.045,-1.499 1.204,-2.748 ; -0.036,1.903 0.43,1.437 ; -0.036,3 1.011,1.953 ; -0.027,-1.5 1.217,-2.743 ; -0.024,-2.598 0.356,-2.979 ; -0.018,3 1.016,1.965 ; -0.016,1.901 0.456,1.429 ; -0.009,-1.5 1.229,-2.738 ; -0.005,-2.6 0.372,-2.977 ; -0.001,3 1.022,1.977 ; 0.003,1.9 0.482,1.421 ; 0.009,-1.5 1.241,-2.732 ; 0.013,-2.6 0.388,-2.975 ; 0.017,3 1.028,1.989 ; 0.021,1.9 0.509,1.411 ; 0.026,-1.5 1.253,-2.727 ; 0.03,-2.6 0.404,-2.973 ; 0.035,3 1.034,2 ; 0.037,1.901 0.538,1.401 ; 0.044,-1.499 1.265,-2.721 ; 0.046,-2.598 0.419,-2.971 ; 0.053,2.999 1.041,2.011 ; 0.054,1.902 0.567,1.389 ; 0.061,-1.499 1.277,-2.715 ; 0.062,-2.596 0.435,-2.969 ; 0.069,1.905 0.597,1.376 ; 0.071,2.999 1.048,2.021 ; 0.077,-2.594 0.45,-2.966 ; 0.078,-1.498 1.289,-2.71 ; 0.084,1.907 0.629,1.362 ; 0.089,2.998 1.056,2.032 ; 0.092,-2.591 0.465,-2.964 ; 0.094,-1.497 1.301,-2.704 ; 0.098,1.911 0.663,1.346 ; 0.106,-2.587 0.481,-2.962 ; 0.107,2.998 1.063,2.042 ; 0.111,-1.496 1.313,-2.698 ; 0.112,1.915 0.699,1.327 ; 0.12,-2.583 0.496,-2.959 ; 0.126,1.919 0.739,1.306 ; 0.125,2.997 1.071,2.051 ; 0.127,-1.495 1.325,-2.692 ; 0.133,-2.579 0.511,-2.957 ; 0.138,1.924 0.782,1.281 ; 0.144,-1.493 1.337,-2.686 ; 0.144,2.996 1.08,2.06 ; 0.145,-2.574 0.526,-2.954 ; 0.151,1.929 0.83,1.249 ; 0.158,-2.568 0.541,-2.951 ; 0.16,-1.492 1.348,-2.681 ; 0.163,1.934 0.89,1.208 ; 0.163,2.995 1.089,2.069 ; 0.17,-2.562 0.556,-2.949 ; 0.176,-1.49 1.36,-2.675 ; 0.175,1.94 0.976,1.139 ; 0.181,-2.556 0.571,-2.946 ; 0.181,2.994 1.098,2.078 ; 0.186,1.946 2.901,-0.768 ; 0.191,-1.488 1.372,-2.669 ; 0.193,-2.55 0.585,-2.943 ; 0.197,1.953 2.904,-0.754 ; 0.2,2.993 1.107,2.086 ; 0.203,-2.543 0.6,-2.94 ; 0.207,-1.486 1.384,-2.663 ; 0.208,1.96 2.908,-0.74 ; 0.214,-2.536 0.615,-2.937 ; 0.219,1.967 2.912,-0.726 ; 0.219,2.992 1.117,2.094 ; 0.222,-1.484 1.395,-2.657 ; 0.224,-2.528 0.629,-2.934 ; 0.229,1.975 2.915,-0.712 ; 0.234,-2.521 0.644,-2.931 ; 0.238,-1.481 1.407,-2.65 ; 0.238,1.983 2.919,-0.697 ; 0.238,2.99 1.127,2.102 ; 0.244,-2.513 0.658,-2.927 ; 0.248,1.991 2.922,-0.683 ; 0.253,-2.504 0.673,-2.924 ; 0.253,-1.479 1.418,-2.644 ; 0.257,2 2.925,-0.669 ; 0.258,2.989 1.137,2.109 ; 0.262,-2.495 0.687,-2.921 ; 0.266,2.008 2.928,-0.654 ; 0.268,-1.476 1.43,-2.638 ; 0.27,-2.486 0.702,-2.917 ; 0.274,2.018 2.932,-0.64 ; 0.277,2.987 1.148,2.116 ; 0.279,-2.477 0.716,-2.914 ; 0.282,2.027 2.935,-0.625 ; 0.283,-1.473 1.441,-2.632 ; 0.287,-2.467 0.73,-2.911 ; 0.29,2.037 2.938,-0.611 ; 0.293,2.459 0.989,1.762 ; 0.294,-2.457 0.744,-2.907 ; 0.296,2.985 1.159,2.123 ; 0.298,-1.471 1.453,-2.626 ; 0.298,2.047 2.941,-0.596 ; 0.302,-2.447 0.758,-2.903 ; 0.305,2.058 1.859,0.503 ; 0.309,-2.436 0.772,-2.9 ; 0.309,-2.066 1.053,-2.81 ; 0.312,2.069 1.836,0.544 ; 0.312,-1.468 1.464,-2.619 ; 0.315,-2.425 0.786,-2.896 ; 0.316,2.983 1.17,2.129 ; 0.318,2.08 1.823,0.575 ; 0.321,-2.414 0.8,-2.892 ; 0.322,2.411 0.994,1.74 ; 0.324,2.091 1.815,0.601 ; 0.327,-1.464 1.475,-2.613 ; 0.327,-2.402 0.814,-2.888 ; 0.33,-2.104 1.041,-2.815 ; 0.33,2.103 1.809,0.624 ; 0.333,-2.39 0.827,-2.884 ; 0.336,2.981 1.182,2.135 ; 0.338,-2.377 0.841,-2.88 ; 0.337,2.379 1.001,1.715 ; 0.34,2.128 1.803,0.665 ; 0.342,-2.134 1.028,-2.819 ; 0.341,-1.461 1.486,-2.606 ; 0.343,-2.364 0.855,-2.876 ; 0.345,2.141 1.802,0.684 ; 0.347,-2.351 0.868,-2.872 ; 0.347,2.352 1.011,1.688 ; 0.349,2.155 1.802,0.702 ; 0.351,-2.337 0.882,-2.868 ; 0.35,-2.159 1.015,-2.824 ; 0.353,2.169 1.803,0.719 ; 0.353,2.328 1.027,1.654 ; 0.354,-2.323 0.896,-2.864 ; 0.355,-2.182 1.002,-2.829 ; 0.355,-1.458 1.498,-2.6 ; 0.356,2.184 1.804,0.735 ; 0.356,2.979 1.194,2.141 ; 0.357,-2.308 0.909,-2.86 ; 0.358,2.199 1.806,0.751 ; 0.358,2.306 1.061,1.603 ; 0.36,-2.293 0.922,-2.855 ; 0.359,-2.204 0.989,-2.833 ; 0.361,-2.277 0.936,-2.851 ; 0.361,-2.223 0.975,-2.838 ; 0.36,2.214 1.809,0.766 ; 0.36,2.285 1.825,0.82 ; 0.362,-2.26 0.949,-2.847 ; 0.362,-2.242 0.962,-2.842 ; 0.362,2.231 1.812,0.78 ; 0.362,2.248 1.816,0.794 ; 0.362,2.266 1.82,0.807 ; 0.37,-1.454 1.509,-2.593 ; 0.376,2.976 1.206,2.146 ; 0.384,-1.451 1.52,-2.587 ; 0.396,2.974 1.219,2.151 ; 0.398,-1.447 1.531,-2.58 ; 0.411,-1.443 1.542,-2.574 ; 0.417,2.971 1.233,2.155 ; 0.425,-1.439 1.553,-2.567 ; 0.437,2.968 1.247,2.159 ; 0.439,-1.435 1.564,-2.56 ; 0.452,-1.431 1.063,-2.042 ; 0.458,2.965 1.261,2.162 ; 0.466,-1.426 1.027,-1.988 ; 0.479,-1.422 1.011,-1.954 ; 0.479,2.962 1.276,2.165 ; 0.492,-1.418 1.001,-1.926 ; 0.5,2.958 1.291,2.168 ; 0.505,-1.413 0.994,-1.902 ; 0.518,-1.408 0.989,-1.879 ; 0.522,2.955 1.307,2.169 ; 0.531,-1.403 0.986,-1.859 ; 0.544,-1.398 0.985,-1.84 ; 0.543,2.951 1.324,2.17 ; 0.556,-1.393 0.984,-1.821 ; 0.565,2.947 1.341,2.17 ; 0.569,-1.388 0.985,-1.804 ; 0.581,-1.383 0.986,-1.788 ; 0.587,2.942 1.36,2.169 ; 0.594,-1.378 0.988,-1.772 ; 0.606,-1.373 0.99,-1.757 ; 0.609,2.938 1.38,2.167 ; 0.618,-1.367 0.993,-1.742 ; 0.63,-1.362 0.997,-1.728 ; 0.631,2.933 1.401,2.164 ; 0.643,-1.356 1.001,-1.714 ; 0.654,-1.35 1.005,-1.701 ; 0.654,2.928 1.424,2.158 ; 0.666,-1.344 1.01,-1.688 ; 0.677,2.923 1.449,2.151 ; 0.678,-1.338 1.016,-1.676 ; 0.69,-1.332 1.021,-1.664 ; 0.7,2.918 1.479,2.139 ; 0.701,-1.326 1.027,-1.652 ; 0.713,-1.32 1.034,-1.641 ; 0.724,-1.314 1.041,-1.63 ; 0.723,2.912 1.516,2.119 ; 0.736,-1.308 1.048,-1.62 ; 0.747,-1.301 1.055,-1.609 ; 0.747,2.906 2.906,0.747 ; 0.758,-1.295 1.063,-1.599 ; 0.769,-1.288 1.071,-1.59 ; 0.771,2.9 2.9,0.771 ; 0.78,-1.281 1.079,-1.581 ; 0.791,-1.275 1.088,-1.572 ; 0.795,2.893 2.894,0.795 ; 0.802,-1.268 1.097,-1.563 ; 0.813,-1.261 1.106,-1.555 ; 0.82,2.886 2.887,0.819 ; 0.823,-1.254 1.116,-1.547 ; 0.834,-1.247 1.126,-1.539 ; 0.845,-1.24 1.136,-1.532 ; 0.844,2.879 2.88,0.844 ; 0.855,-1.233 1.147,-1.525 ; 0.866,-1.225 1.158,-1.518 ; 0.87,2.872 2.872,0.869 ; 0.876,-1.218 1.169,-1.512 ; 0.886,-1.211 1.181,-1.506 ; 0.895,2.864 2.864,0.895 ; 0.896,-1.203 1.193,-1.5 ; 0.906,-1.195 1.206,-1.495 ; 0.916,-1.188 1.219,-1.49 ; 0.921,2.856 2.856,0.921 ; 0.926,-1.18 1.232,-1.486 ; 0.936,-1.172 1.246,-1.482 ; 0.946,-1.164 1.26,-1.478 ; 0.947,2.847 2.848,0.947 ; 0.956,-1.156 1.275,-1.475 ; 0.965,-1.148 1.29,-1.473 ; 0.974,2.838 2.839,0.974 ; 0.975,-1.14 1.306,-1.471 ; 0.984,-1.132 1.323,-1.47 ; 0.994,-1.124 1.34,-1.47 ; 1.001,2.829 2.829,1.001 ; 1.003,-1.115 1.359,-1.471 ; 1.012,-1.107 1.378,-1.473 ; 1.022,-1.098 1.399,-1.476 ; 1.029,2.819 2.819,1.028 ; 1.031,-1.09 1.422,-1.481 ; 1.04,-1.081 1.447,-1.489 ; 1.049,-1.073 1.477,-1.5 ; 1.057,2.808 2.809,1.056 ; 1.058,-1.064 1.513,-1.519 ; 1.066,-1.055 2.127,-2.116 ; 1.075,-1.046 2.136,-2.107 ; 1.084,-1.037 2.145,-2.098 ; 1.085,2.797 2.798,1.085 ; 1.092,-1.028 2.153,-2.089 ; 1.101,-1.019 2.162,-2.08 ; 1.109,-1.01 2.171,-2.071 ; 1.112,-2.091 1.575,-2.554 ; 1.115,2.786 2.786,1.114 ; 1.118,-1 2.179,-2.062 ; 1.117,1.546 1.83,0.833 ; 1.126,-0.991 2.188,-2.053 ; 1.134,-0.982 2.196,-2.044 ; 1.139,0.976 2.897,-0.782 ; 1.143,-0.972 2.205,-2.034 ; 1.144,2.774 2.774,1.144 ; 1.151,-0.962 2.213,-2.025 ; 1.159,-0.953 2.222,-2.016 ; 1.166,-2.127 1.586,-2.547 ; 1.167,-0.943 2.23,-2.007 ; 1.169,1.512 1.836,0.845 ; 1.174,-0.933 2.239,-1.997 ; 1.175,2.761 2.761,1.174 ; 1.182,-0.923 2.247,-1.988 ; 1.19,-0.913 2.255,-1.979 ; 1.198,-0.903 2.263,-1.969 ; 1.2,-2.144 1.597,-2.54 ; 1.202,1.496 1.842,0.857 ; 1.205,-0.893 2.272,-1.96 ; 1.206,2.748 2.748,1.206 ; 1.208,0.89 2.893,-0.796 ; 1.213,-0.883 2.28,-1.95 ; 1.22,-0.873 2.288,-1.941 ; 1.227,-0.862 2.296,-1.931 ; 1.228,-2.154 1.608,-2.533 ; 1.23,1.486 1.848,0.868 ; 1.235,-0.852 2.304,-1.921 ; 1.238,2.733 2.734,1.238 ; 1.242,-0.842 2.312,-1.912 ; 1.249,-0.831 2.32,-1.902 ; 1.249,0.83 2.889,-0.81 ; 1.253,-2.161 1.619,-2.526 ; 1.254,1.48 1.854,0.879 ; 1.256,-0.82 2.328,-1.892 ; 1.263,-0.81 2.336,-1.883 ; 1.27,-0.799 2.344,-1.873 ; 1.271,2.718 2.719,1.27 ; 1.275,-2.165 1.629,-2.519 ; 1.277,-0.788 2.352,-1.863 ; 1.276,1.475 1.861,0.89 ; 1.281,0.781 2.886,-0.824 ; 1.283,-0.777 2.359,-1.853 ; 1.29,-0.766 2.367,-1.843 ; 1.296,-2.168 1.64,-2.512 ; 1.297,-0.755 2.375,-1.833 ; 1.297,1.472 1.869,0.901 ; 1.303,-0.744 2.383,-1.823 ; 1.304,2.702 2.703,1.304 ; 1.306,0.738 2.882,-0.837 ; 1.309,-0.732 2.39,-1.813 ; 1.315,-2.17 1.651,-2.505 ; 1.316,-0.721 2.398,-1.803 ; 1.316,1.471 1.876,0.911 ; 1.322,-0.71 2.405,-1.793 ; 1.327,0.699 2.878,-0.851 ; 1.328,-0.698 2.413,-1.783 ; 1.333,-2.17 1.661,-2.498 ; 1.334,-0.686 2.42,-1.773 ; 1.334,1.47 1.884,0.92 ; 1.339,2.685 2.685,1.339 ; 1.34,-0.675 2.428,-1.762 ; 1.346,-0.663 2.435,-1.752 ; 1.346,0.663 2.874,-0.865 ; 1.35,-2.17 1.672,-2.491 ; 1.352,-0.651 2.443,-1.742 ; 1.352,1.471 1.892,0.93 ; 1.358,-0.639 2.45,-1.732 ; 1.362,0.629 2.869,-0.878 ; 1.363,-0.627 2.457,-1.721 ; 1.367,-2.169 1.682,-2.484 ; 1.368,1.472 1.901,0.939 ; 1.369,-0.615 2.465,-1.711 ; 1.374,-0.603 2.472,-1.7 ; 1.375,2.667 2.667,1.375 ; 1.376,0.597 2.865,-0.892 ; 1.379,-0.59 2.479,-1.69 ; 1.383,-2.167 1.693,-2.477 ; 1.385,-0.578 2.486,-1.679 ; 1.384,1.474 1.91,0.948 ; 1.39,-0.565 2.493,-1.669 ; 1.389,0.567 2.861,-0.905 ; 1.395,-0.553 2.5,-1.658 ; 1.398,-2.164 1.703,-2.47 ; 1.4,-0.54 2.508,-1.648 ; 1.399,1.476 1.919,0.956 ; 1.401,0.537 2.335,-0.397 ; 1.405,-0.527 2.515,-1.637 ; 1.41,-0.514 2.521,-1.626 ; 1.411,0.509 2.297,-0.377 ; 1.413,-2.161 1.714,-2.463 ; 1.412,2.647 2.648,1.412 ; 1.414,1.479 1.928,0.964 ; 1.414,-0.501 2.528,-1.615 ; 1.419,-0.488 2.535,-1.605 ; 1.421,0.482 2.268,-0.365 ; 1.423,-0.475 2.542,-1.594 ; 1.427,-2.158 1.724,-2.455 ; 1.428,-0.462 1.872,-0.906 ; 1.428,1.483 1.938,0.972 ; 1.429,0.456 2.242,-0.357 ; 1.432,-0.448 1.842,-0.858 ; 1.436,-0.435 1.827,-0.825 ; 1.437,0.43 2.219,-0.352 ; 1.44,-2.154 1.735,-2.448 ; 1.44,-0.421 1.817,-0.798 ; 1.441,1.487 1.948,0.98 ; 1.444,-0.407 1.811,-0.774 ; 1.445,0.405 2.198,-0.348 ; 1.448,-0.393 1.806,-0.752 ; 1.452,-0.38 1.804,-0.732 ; 1.451,0.381 2.179,-0.346 ; 1.451,2.626 2.627,1.451 ; 1.454,-2.149 1.745,-2.441 ; 1.455,1.491 1.959,0.987 ; 1.455,-0.365 1.802,-0.712 ; 1.457,0.357 2.16,-0.345 ; 1.459,-0.351 1.802,-0.694 ; 1.462,-0.337 1.802,-0.677 ; 1.463,0.334 2.142,-0.345 ; 1.465,-0.322 1.803,-0.661 ; 1.466,-2.144 1.755,-2.433 ; 1.467,1.496 1.97,0.994 ; 1.468,-0.308 1.805,-0.645 ; 1.468,0.312 2.126,-0.346 ; 1.471,-0.293 1.808,-0.63 ; 1.472,0.289 2.109,-0.348 ; 1.474,-0.278 1.811,-0.615 ; 1.476,0.268 2.094,-0.35 ; 1.477,-0.263 1.815,-0.601 ; 1.479,-2.139 1.765,-2.426 ; 1.48,-0.248 1.819,-0.588 ; 1.48,0.246 2.079,-0.353 ; 1.48,1.502 1.981,1 ; 1.482,-0.233 1.823,-0.574 ; 1.483,0.225 2.065,-0.356 ; 1.484,-0.218 1.828,-0.562 ; 1.486,-0.202 1.834,-0.549 ; 1.486,0.205 2.051,-0.36 ; 1.489,-0.187 1.839,-0.537 ; 1.489,0.184 2.038,-0.365 ; 1.491,-2.133 1.776,-2.418 ; 1.49,-0.171 1.845,-0.526 ; 1.491,0.164 2.025,-0.369 ; 1.492,1.507 1.992,1.007 ; 1.492,-0.155 1.852,-0.515 ; 1.492,2.603 2.604,1.491 ; 1.494,-0.139 1.859,-0.504 ; 1.493,0.145 2.012,-0.374 ; 1.495,-0.122 1.866,-0.493 ; 1.495,0.125 2,-0.38 ; 1.496,-0.106 1.873,-0.483 ; 1.496,0.106 1.988,-0.386 ; 1.497,-0.089 1.881,-0.473 ; 1.498,0.087 1.977,-0.392 ; 1.498,-0.073 1.889,-0.464 ; 1.499,-0.056 1.898,-0.455 ; 1.499,0.05 1.955,-0.406 ; 1.498,0.069 1.966,-0.399 ; 1.5,-0.039 1.907,-0.446 ; 1.5,-0.021 1.916,-0.437 ; 1.5,-0.004 1.925,-0.429 ; 1.5,0.014 1.935,-0.421 ; 1.5,0.032 1.945,-0.413 ; 1.502,-2.127 1.786,-2.411 ; 1.503,1.513 2.004,1.012 ; 1.514,-2.121 1.796,-2.403 ; 1.514,1.52 2.016,1.018 ; 1.525,-2.114 1.806,-2.396 ; 1.525,1.527 2.029,1.023 ; 1.534,2.578 2.579,1.534 ; 1.535,-2.107 1.816,-2.388 ; 1.536,1.534 2.042,1.028 ; 1.545,-2.1 1.826,-2.38 ; 1.546,1.541 2.056,1.032 ; 1.555,-2.092 1.836,-2.373 ; 1.556,1.549 2.07,1.035 ; 1.565,-2.084 1.846,-2.365 ; 1.566,1.557 2.084,1.039 ; 1.574,-2.075 1.856,-2.357 ; 1.575,1.566 2.099,1.041 ; 1.579,2.551 2.551,1.579 ; 1.583,-2.067 1.866,-2.349 ; 1.584,1.574 2.115,1.043 ; 1.592,-2.058 1.876,-2.342 ; 1.592,1.583 2.131,1.045 ; 1.6,-2.048 1.885,-2.334 ; 1.601,1.593 2.148,1.045 ; 1.608,-2.039 1.895,-2.326 ; 1.609,1.602 2.166,1.045 ; 1.616,-2.029 1.905,-2.318 ; 1.616,1.612 2.185,1.044 ; 1.623,-2.018 1.915,-2.31 ; 1.624,1.623 2.205,1.041 ; 1.628,2.52 2.521,1.627 ; 1.63,-2.008 1.924,-2.302 ; 1.631,1.634 2.227,1.037 ; 1.636,-1.642 2.118,-2.124 ; 1.637,-1.997 1.934,-2.294 ; 1.637,1.645 2.251,1.031 ; 1.643,-1.985 1.943,-2.286 ; 1.644,1.656 2.278,1.022 ; 1.649,-1.974 1.953,-2.277 ; 1.649,1.668 2.309,1.008 ; 1.653,1.965 2.918,0.7 ; 1.655,-1.962 1.962,-2.269 ; 1.655,-1.679 2.109,-2.133 ; 1.655,1.68 2.354,0.981 ; 1.66,-1.949 1.972,-2.261 ; 1.66,1.692 2.977,0.376 ; 1.665,-1.936 1.981,-2.253 ; 1.665,1.705 2.974,0.396 ; 1.665,1.935 2.923,0.677 ; 1.666,-1.708 2.1,-2.142 ; 1.669,-1.923 1.991,-2.244 ; 1.669,1.719 2.971,0.416 ; 1.673,-1.909 2,-2.236 ; 1.673,1.732 2.968,0.437 ; 1.673,1.91 2.929,0.654 ; 1.674,-1.733 2.091,-2.151 ; 1.677,-1.895 2.009,-2.228 ; 1.677,1.747 2.965,0.458 ; 1.678,1.887 2.934,0.631 ; 1.68,-1.88 2.019,-2.219 ; 1.679,-1.756 2.082,-2.159 ; 1.679,1.762 2.962,0.479 ; 1.68,2.486 2.486,1.679 ; 1.682,-1.865 2.028,-2.211 ; 1.682,-1.777 2.073,-2.168 ; 1.682,1.777 2.959,0.5 ; 1.681,1.866 2.938,0.609 ; 1.683,1.793 2.955,0.521 ; 1.683,1.846 2.943,0.587 ; 1.684,-1.849 2.037,-2.202 ; 1.685,-1.832 2.046,-2.194 ; 1.684,-1.796 2.064,-2.177 ; 1.684,1.81 2.951,0.543 ; 1.684,1.827 2.947,0.565 ; 1.685,-1.815 2.055,-2.185 ; 1.738,2.446 2.446,1.737 ; 1.804,2.397 2.398,1.803 ; 1.805,0.645 0.335,2.116 ; 1.884,2.335 2.335,1.884 ; 1.941,-0.975 2.549,-1.583 ; 1.96,0.402 2.944,-0.581 ; 1.989,-1.005 2.556,-1.572 ; 2.001,0.379 2.947,-0.566 ; 2.004,2.233 2.233,2.003 ; 2.022,-1.021 2.562,-1.561 ; 2.031,0.367 2.949,-0.552 ; 2.049,-1.03 2.569,-1.55 ; 2.057,0.358 2.952,-0.537 ; 2.073,-1.037 2.576,-1.539 ; 2.081,0.352 2.955,-0.522 ; 2.095,-1.041 2.582,-1.528 ; 2.102,0.349 2.957,-0.506 ; 2.116,-1.044 2.589,-1.517 ; 2.122,0.346 2.96,-0.491 ; 2.135,-1.045 2.595,-1.506 ; 2.141,0.345 2.962,-0.476 ; 2.153,-1.045 2.602,-1.494 ; 2.159,0.345 2.965,-0.461 ; 2.17,-1.045 2.608,-1.483 ; 2.176,0.346 2.967,-0.445 ; 2.186,-1.044 2.615,-1.472 ; 2.192,0.347 2.969,-0.43 ; 2.202,-1.042 2.621,-1.461 ; 2.207,0.35 2.972,-0.415 ; 2.217,-1.039 2.627,-1.449 ; 2.222,0.352 2.974,-0.399 ; 2.232,-1.036 2.634,-1.438 ; 2.237,0.356 2.976,-0.383 ; 2.246,-1.032 2.64,-1.426 ; 2.251,0.359 2.978,-0.368 ; 2.259,-1.028 2.646,-1.415 ; 2.264,0.364 2.98,-0.352 ; 2.273,-1.024 2.652,-1.403 ; 2.277,0.368 2.981,-0.336 ; 2.285,-1.019 2.658,-1.392 ; 2.29,0.373 2.983,-0.32 ; 2.298,-1.013 2.664,-1.38 ; 2.302,0.379 2.985,-0.304 ; 2.31,-1.008 2.67,-1.369 ; 2.314,0.385 2.986,-0.288 ; 2.321,-1.002 2.676,-1.357 ; 2.325,0.391 2.988,-0.272 ; 2.332,-0.995 2.682,-1.345 ; 2.336,0.398 2.989,-0.255 ; 2.343,-0.988 2.688,-1.333 ; 2.347,0.405 2.991,-0.239 ; 2.354,-0.981 2.694,-1.321 ; 2.357,0.412 2.992,-0.223 ; 2.364,-0.974 2.7,-1.31 ; 2.367,0.42 2.993,-0.206 ; 2.374,-0.966 2.706,-1.298 ; 2.377,0.427 2.994,-0.19 ; 2.383,-0.958 2.711,-1.286 ; 2.386,0.436 2.995,-0.173 ; 2.393,-0.949 2.717,-1.274 ; 2.396,0.444 2.996,-0.156 ; 2.401,-0.94 2.723,-1.262 ; 2.404,0.453 2.997,-0.139 ; 2.41,-0.931 2.728,-1.25 ; 2.413,0.462 2.998,-0.122 ; 2.421,0.472 2.998,-0.105 ; 2.426,-0.912 2.739,-1.225 ; 2.429,0.482 2.999,-0.088 ; 2.434,-0.902 2.745,-1.213 ; 2.436,0.492 2.999,-0.071 ; 2.437,0.898 2.979,0.356 ; 2.441,-0.892 2.75,-1.201 ; 2.444,0.502 3,-0.054 ; 2.448,-0.881 2.755,-1.188 ; 2.45,-0.512 2.857,-0.918 ; 2.45,0.513 3,-0.036 ; 2.455,-0.87 2.761,-1.176 ; 2.457,0.524 3,-0.019 ; 2.461,-0.859 2.766,-1.164 ; 2.463,0.536 3,-0.001 ; 2.464,0.853 2.981,0.336 ; 2.467,-0.847 2.771,-1.151 ; 2.469,0.548 3,0.017 ; 2.47,-0.55 2.852,-0.932 ; 2.473,-0.835 2.776,-1.139 ; 2.474,0.56 3,0.034 ; 2.478,-0.823 2.781,-1.126 ; 2.478,0.821 2.984,0.316 ; 2.479,0.573 3,0.052 ; 2.482,-0.579 2.848,-0.945 ; 2.483,-0.81 2.787,-1.113 ; 2.484,0.586 2.999,0.07 ; 2.487,-0.796 2.792,-1.101 ; 2.488,0.599 2.999,0.089 ; 2.487,0.794 2.986,0.296 ; 2.491,-0.782 2.797,-1.088 ; 2.49,-0.605 2.844,-0.958 ; 2.492,0.613 2.998,0.107 ; 2.493,0.771 2.987,0.277 ; 2.494,-0.768 2.802,-1.075 ; 2.495,-0.628 2.839,-0.972 ; 2.495,0.628 2.997,0.125 ; 2.497,-0.753 2.806,-1.063 ; 2.498,0.643 2.997,0.144 ; 2.498,0.749 2.989,0.257 ; 2.499,-0.738 2.811,-1.05 ; 2.499,-0.649 2.835,-0.985 ; 2.5,0.658 2.996,0.162 ; 2.501,-0.722 2.816,-1.037 ; 2.501,-0.669 2.83,-0.998 ; 2.501,0.675 2.995,0.181 ; 2.5,0.729 2.991,0.238 ; 2.502,-0.705 2.821,-1.024 ; 2.502,-0.687 2.825,-1.011 ; 2.502,0.692 2.993,0.2 ; 2.501,0.71 2.992,0.219 ; 2.734,-1.237 2.418,-0.922 ; 2.912,0.723 1.633,2.002 ; 0.335,2.116 ccw(c0.012,2.25) 0.146,2.573 ccw(c0.012,2.25) -0.311,2.384 ccw(c0.012,2.25) -0.122,1.927 ccw(c0.012,2.25) 0.335,2.116 ; 1.633,2.003 cw(c1.334,1.82) 1.517,1.522 cw(c1.335,1.82) 1.036,1.637 cw(c1.335,1.82) 1.152,2.119 cw(c1.334,1.82) 1.633,2.003 ; 2.418,-0.923 cw(c2.152,-0.695) 1.924,-0.962 cw(c2.152,-0.695) 1.886,-0.468 cw(c2.152,-0.696) 2.379,-0.429 cw(c2.152,-0.695) 2.418,-0.923 ; -3,0 cw(c0,0) 0,3 cw(c0,0) 3,0 cw(c0,0) 0,-3 cw(c0,0) -3,0 ; -2.477,-0.668 cw(c-2.127,-0.695) -2.1,-0.346 cw(c-2.128,-0.695) -1.779,-0.723 cw(c-2.128,-0.695) -2.155,-1.044 cw(c-2.128,-0.695) -2.477,-0.668 ; -2.394,0.922 cw(c-2.128,0.695) -1.9,0.961 cw(c-2.128,0.695) -1.862,0.468 cw(c-2.128,0.695) -2.355,0.429 cw(c-2.128,0.695) -2.394,0.922 ; -1.651,1.738 cw(c-1.311,1.82) -1.392,2.16 cw(c-1.311,1.82) -0.97,1.902 cw(c-1.31,1.82) -1.229,1.48 cw(c-1.311,1.82) -1.651,1.738 ; -1.609,-2.003 cw(c-1.31,-1.82) -1.493,-1.522 cw(c-1.311,-1.82) -1.012,-1.638 cw(c-1.311,-1.82) -1.128,-2.119 cw(c-1.31,-1.82) -1.609,-2.003 ; -1.5,0 cw(c0,0) 0,1.5 cw(c0,0) 1.5,0 cw(c0,0) 0,-1.5 cw(c0,0) -1.5,0 ; -0.311,-2.116 cw(c0.012,-2.25) 0.146,-1.927 cw(c0.012,-2.25) 0.335,-2.384 cw(c0.012,-2.25) -0.122,-2.573 cw(c0.012,-2.25) -0.311,-2.116 ; 0.994,-1.902 cw(c1.334,-1.82) 1.253,-1.48 cw(c1.334,-1.821) 1.675,-1.739 cw(c1.335,-1.82) 1.416,-2.161 cw(c1.334,-1.82) 0.994,-1.902 ; 1.803,0.722 cw(c2.152,0.695) 2.179,1.044 cw(c2.152,0.695) 2.5,0.668 cw(c2.152,0.695) 2.124,0.346 cw(c2.152,0.695) 1.803,0.722
Top Solder:
  drawing of 1328 lines, arcs and shapes, not listed
Bottom Solder:
  drawing of 1328 lines, arcs and shapes, not listed